# Altium integrated library Xilinx CoolRunner II.IntLib: 198 symbols (part 13 of 14)
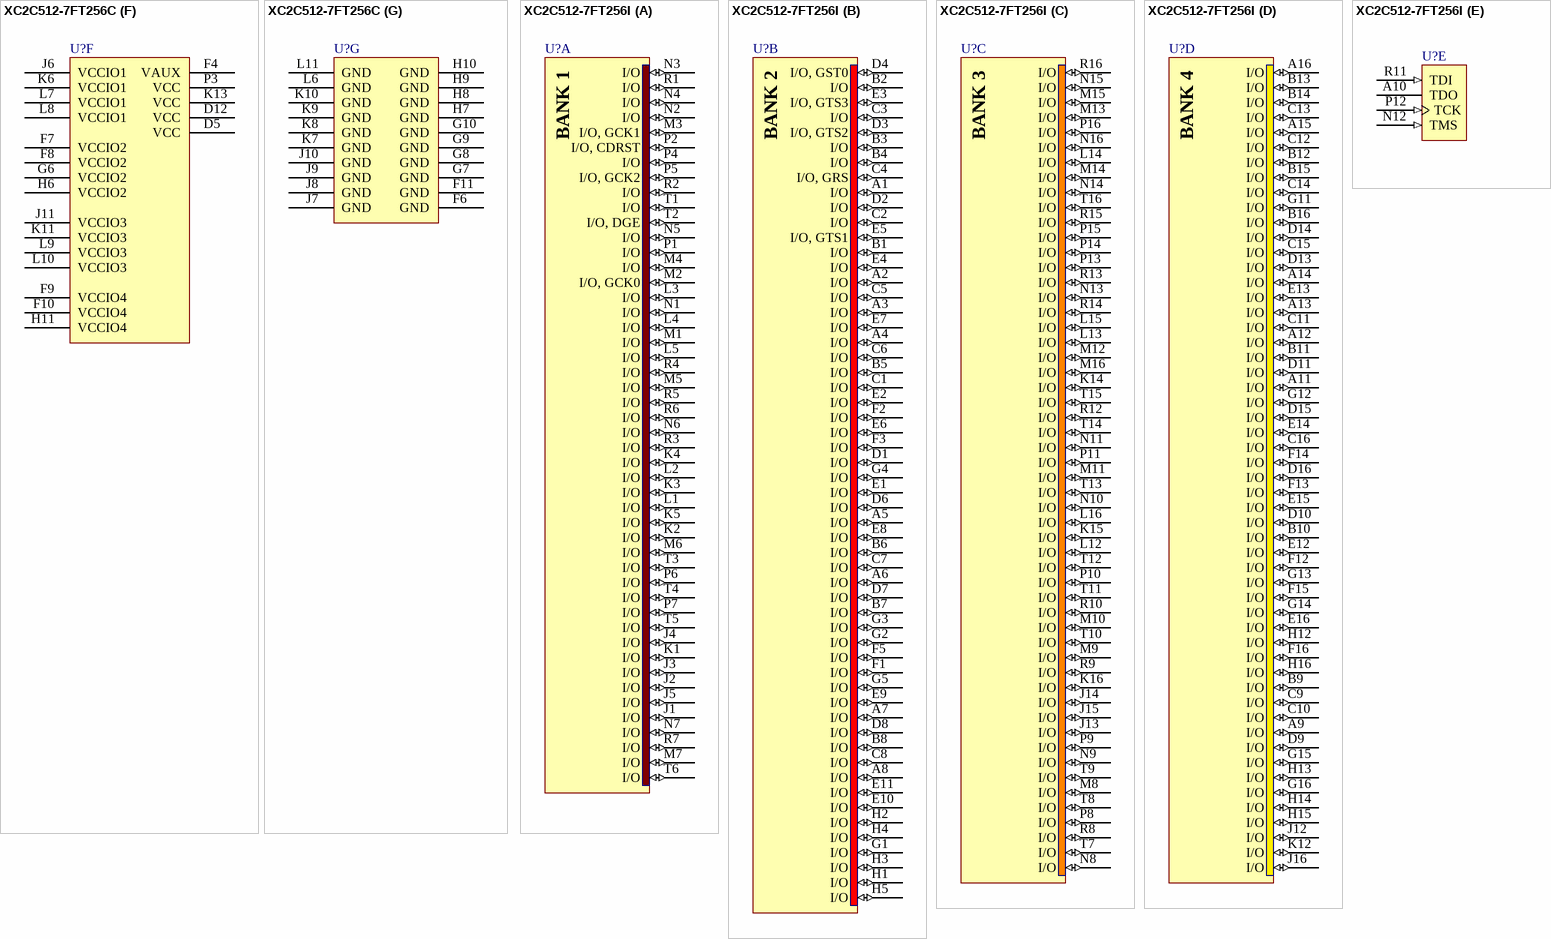
[diagram p114: symbols XC2C512-7FT256C to XC2C512-7FT256I]

## XC2C512-7FT256C
designator U?
CoolRunner-II 1.8V, 512 Macrocell CPLD, 212 User I/Os, 256-Ball FTBGA, Commercial Grade; Published: 23-Sep-2002; LatestRevisionDate: 30-Oct-2009; LatestRevisionNote: Updated to datasheet version 3.1 Sep-2008.; DatasheetVersion: ver3.2, Mar-2007; PackageVersion: ver1.3, Oct-2007; PackageReference: FT256; Publisher: Altium Limited; PackageDescription: 256-Ball Fine Pitch Thin Ball Grid Array 1.00 mm Pitch (FT256); Code_JEDEC: MS-034-AAF-1*; ComponentLink1Description: XC2C512 Datasheet; ComponentLink1URL: http://www.xilinx.com/support/documentation/data_sheets/ds096.pdf; ComponentLink2Description: FT256 Package Drawing; ComponentLink2URL: http://www.xilinx.com/support/documentation/package_specs/ft256.pdf; ComponentLink3Description: CoolRunner-II Documents; ComponentLink3URL: http://www.xilinx.com/support/documentation/coolrunner-ii.htm; ComponentLink4Description: Xilinx.com Home; ComponentLink4URL: http://www.xilinx.com
footprint FT256 (BGA, 256-Leads, Body 17x17mm, Pitch 1mm)
signal-integrity model XC2C512_FT256 (CoolRunner-II)
part A pins: J1 I/O (io), J2 I/O (io), J3 I/O (io), J4 I/O (io), J5 I/O (io), K1 I/O (io), K2 I/O (io), K3 I/O (io), K4 I/O (io), K5 I/O (io), L1 I/O (io), L2 I/O (io), L3 I/O (io), L4 I/O (io), L5 I/O (io), M1 I/O (io), M2 I/O, GCK0 (io), M3 I/O, GCK1 (io), M4 I/O (io), M5 I/O (io), M6 I/O (io), M7 I/O (io), N1 I/O (io), N2 I/O (io), N3 I/O (io), N4 I/O (io), N5 I/O (io), N6 I/O (io), N7 I/O (io), P1 I/O (io), P2 I/O, CDRST (io), P4 I/O (io), P5 I/O, GCK2 (io), P6 I/O (io), P7 I/O (io), R1 I/O (io), R2 I/O (io), R3 I/O (io), R4 I/O (io), R5 I/O (io), R6 I/O (io), R7 I/O (io), T1 I/O (io), T2 I/O, DGE (io), T3 I/O (io), T4 I/O (io), T5 I/O (io), T6 I/O (io)
part B pins: A1 I/O (io), A2 I/O (io), A3 I/O (io), A4 I/O (io), A5 I/O (io), A6 I/O (io), A7 I/O (io), A8 I/O (io), B1 I/O (io), B2 I/O (io), B3 I/O (io), B4 I/O (io), B5 I/O (io), B6 I/O (io), B7 I/O (io), B8 I/O (io), C1 I/O (io), C2 I/O (io), C3 I/O (io), C4 I/O, GRS (io), C5 I/O (io), C6 I/O (io), C7 I/O (io), C8 I/O (io), D1 I/O (io), D2 I/O (io), D3 I/O, GTS2 (io), D4 I/O, GST0 (io), D6 I/O (io), D7 I/O (io), D8 I/O (io), E1 I/O (io), E2 I/O (io), E3 I/O, GTS3 (io), E4 I/O (io), E5 I/O, GTS1 (io), E6 I/O (io), E7 I/O (io), E8 I/O (io), E9 I/O (io), E10 I/O (io), E11 I/O (io), F1 I/O (io), F2 I/O (io), F3 I/O (io), F5 I/O (io), G1 I/O (io), G2 I/O (io), G3 I/O (io), G4 I/O (io), G5 I/O (io), H1 I/O (io), H2 I/O (io), H3 I/O (io), H4 I/O (io), H5 I/O (io)
part C pins: J13 I/O (io), J14 I/O (io), J15 I/O (io), K14 I/O (io), K15 I/O (io), K16 I/O (io), L12 I/O (io), L13 I/O (io), L14 I/O (io), L15 I/O (io), L16 I/O (io), M8 I/O (io), M9 I/O (io), M10 I/O (io), M11 I/O (io), M12 I/O (io), M13 I/O (io), M14 I/O (io), M15 I/O (io), M16 I/O (io), N8 I/O (io), N9 I/O (io), N10 I/O (io), N11 I/O (io), N13 I/O (io), N14 I/O (io), N15 I/O (io), N16 I/O (io), P8 I/O (io), P9 I/O (io), P10 I/O (io), P11 I/O (io), P13 I/O (io), P14 I/O (io), P15 I/O (io), P16 I/O (io), R8 I/O (io), R9 I/O (io), R10 I/O (io), R12 I/O (io), R13 I/O (io), R14 I/O (io), R15 I/O (io), R16 I/O (io), T7 I/O (io), T8 I/O (io), T9 I/O (io), T10 I/O (io), T11 I/O (io), T12 I/O (io), T13 I/O (io), T14 I/O (io), T15 I/O (io), T16 I/O (io)
part D pins: A9 I/O (io), A11 I/O (io), A12 I/O (io), A13 I/O (io), A14 I/O (io), A15 I/O (io), A16 I/O (io), B9 I/O (io), B10 I/O (io), B11 I/O (io), B12 I/O (io), B13 I/O (io), B14 I/O (io), B15 I/O (io), B16 I/O (io), C9 I/O (io), C10 I/O (io), C11 I/O (io), C12 I/O (io), C13 I/O (io), C14 I/O (io), C15 I/O (io), C16 I/O (io), D9 I/O (io), D10 I/O (io), D11 I/O (io), D13 I/O (io), D14 I/O (io), D15 I/O (io), D16 I/O (io), E12 I/O (io), E13 I/O (io), E14 I/O (io), E15 I/O (io), E16 I/O (io), F12 I/O (io), F13 I/O (io), F14 I/O (io), F15 I/O (io), F16 I/O (io), G11 I/O (io), G12 I/O (io), G13 I/O (io), G14 I/O (io), G15 I/O (io), G16 I/O (io), H12 I/O (io), H13 I/O (io), H14 I/O (io), H15 I/O (io), H16 I/O (io), J12 I/O (io), J16 I/O (io), K12 I/O (io)
part E pins: A10 TDO, N12 TMS (in), P12 TCK (in), R11 TDI (in)
part F pins: D5 VCC (power), D12 VCC (power), F4 VAUX (power), F7 VCCIO2 (power), F8 VCCIO2 (power), F9 VCCIO4 (power), F10 VCCIO4 (power), G6 VCCIO2 (power), H6 VCCIO2 (power), H11 VCCIO4 (power), J6 VCCIO1 (power), J11 VCCIO3 (power), K6 VCCIO1 (power), K11 VCCIO3 (power), K13 VCC (power), L7 VCCIO1 (power), L8 VCCIO1 (power), L9 VCCIO3 (power), L10 VCCIO3 (power), P3 VCC (power)
part G pins: F6 GND (power), F11 GND (power), G7 GND (power), G8 GND (power), G9 GND (power), G10 GND (power), H7 GND (power), H8 GND (power), H9 GND (power), H10 GND (power), J7 GND (power), J8 GND (power), J9 GND (power), J10 GND (power), K7 GND (power), K8 GND (power), K9 GND (power), K10 GND (power), L6 GND (power), L11 GND (power)
part A text: BANK 1
part B text: BANK 2
part C text: BANK 3
part D text: BANK 4

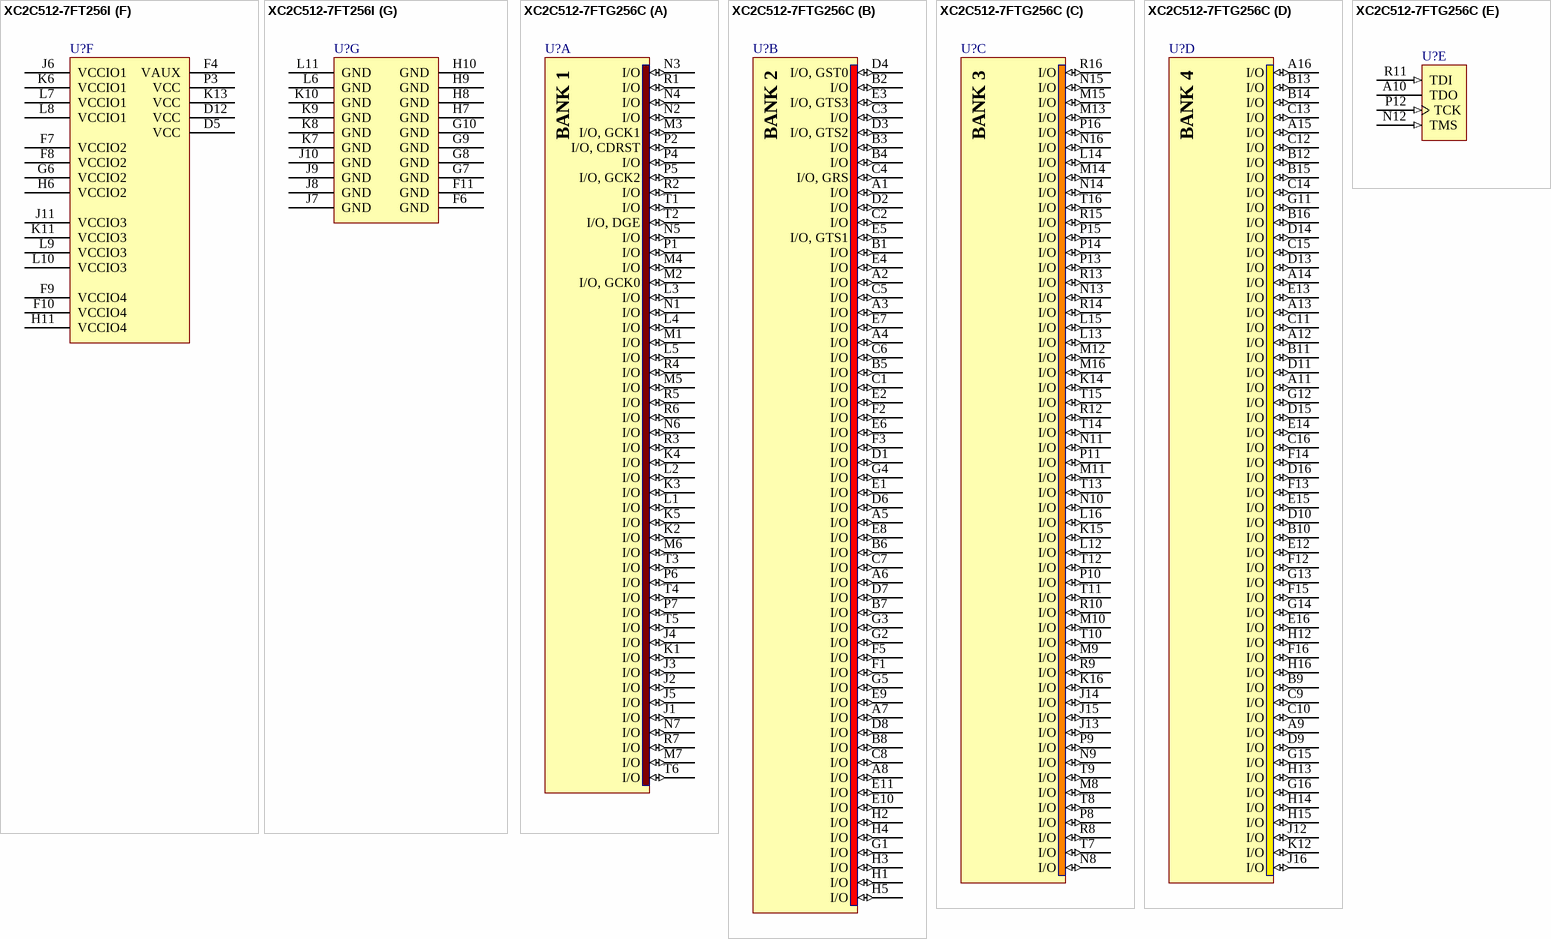
[diagram p86: symbols XC2C512-7FT256I to XC2C512-7FTG256C]

## XC2C512-7FT256I
designator U?
CoolRunner-II 1.8V, 512 Macrocell CPLD, 212 User I/Os, 256-Ball FTBGA, Industrial Grade; Published: 20-Jul-2007; LatestRevisionDate: 30-Oct-2009; LatestRevisionNote: Updated to datasheet version 3.1 Sep-2008.; DatasheetVersion: ver3.2, Mar-2007; PackageVersion: ver1.3, Oct-2007; PackageReference: FT256; Publisher: Altium Limited; PackageDescription: 256-Ball Fine Pitch Thin Ball Grid Array 1.00 mm Pitch (FT256); Code_JEDEC: MS-034-AAF-1*; ComponentLink1Description: XC2C512 Datasheet; ComponentLink1URL: http://www.xilinx.com/support/documentation/data_sheets/ds096.pdf; ComponentLink2Description: FT256 Package Drawing; ComponentLink2URL: http://www.xilinx.com/support/documentation/package_specs/ft256.pdf; ComponentLink3Description: CoolRunner-II Documents; ComponentLink3URL: http://www.xilinx.com/support/documentation/coolrunner-ii.htm; ComponentLink4Description: Xilinx.com Home; ComponentLink4URL: http://www.xilinx.com
footprint FT256 (BGA, 256-Leads, Body 17x17mm, Pitch 1mm)
signal-integrity model XC2C512_FT256 (CoolRunner-II)
part A pins: J1 I/O (io), J2 I/O (io), J3 I/O (io), J4 I/O (io), J5 I/O (io), K1 I/O (io), K2 I/O (io), K3 I/O (io), K4 I/O (io), K5 I/O (io), L1 I/O (io), L2 I/O (io), L3 I/O (io), L4 I/O (io), L5 I/O (io), M1 I/O (io), M2 I/O, GCK0 (io), M3 I/O, GCK1 (io), M4 I/O (io), M5 I/O (io), M6 I/O (io), M7 I/O (io), N1 I/O (io), N2 I/O (io), N3 I/O (io), N4 I/O (io), N5 I/O (io), N6 I/O (io), N7 I/O (io), P1 I/O (io), P2 I/O, CDRST (io), P4 I/O (io), P5 I/O, GCK2 (io), P6 I/O (io), P7 I/O (io), R1 I/O (io), R2 I/O (io), R3 I/O (io), R4 I/O (io), R5 I/O (io), R6 I/O (io), R7 I/O (io), T1 I/O (io), T2 I/O, DGE (io), T3 I/O (io), T4 I/O (io), T5 I/O (io), T6 I/O (io)
part B pins: A1 I/O (io), A2 I/O (io), A3 I/O (io), A4 I/O (io), A5 I/O (io), A6 I/O (io), A7 I/O (io), A8 I/O (io), B1 I/O (io), B2 I/O (io), B3 I/O (io), B4 I/O (io), B5 I/O (io), B6 I/O (io), B7 I/O (io), B8 I/O (io), C1 I/O (io), C2 I/O (io), C3 I/O (io), C4 I/O, GRS (io), C5 I/O (io), C6 I/O (io), C7 I/O (io), C8 I/O (io), D1 I/O (io), D2 I/O (io), D3 I/O, GTS2 (io), D4 I/O, GST0 (io), D6 I/O (io), D7 I/O (io), D8 I/O (io), E1 I/O (io), E2 I/O (io), E3 I/O, GTS3 (io), E4 I/O (io), E5 I/O, GTS1 (io), E6 I/O (io), E7 I/O (io), E8 I/O (io), E9 I/O (io), E10 I/O (io), E11 I/O (io), F1 I/O (io), F2 I/O (io), F3 I/O (io), F5 I/O (io), G1 I/O (io), G2 I/O (io), G3 I/O (io), G4 I/O (io), G5 I/O (io), H1 I/O (io), H2 I/O (io), H3 I/O (io), H4 I/O (io), H5 I/O (io)
part C pins: J13 I/O (io), J14 I/O (io), J15 I/O (io), K14 I/O (io), K15 I/O (io), K16 I/O (io), L12 I/O (io), L13 I/O (io), L14 I/O (io), L15 I/O (io), L16 I/O (io), M8 I/O (io), M9 I/O (io), M10 I/O (io), M11 I/O (io), M12 I/O (io), M13 I/O (io), M14 I/O (io), M15 I/O (io), M16 I/O (io), N8 I/O (io), N9 I/O (io), N10 I/O (io), N11 I/O (io), N13 I/O (io), N14 I/O (io), N15 I/O (io), N16 I/O (io), P8 I/O (io), P9 I/O (io), P10 I/O (io), P11 I/O (io), P13 I/O (io), P14 I/O (io), P15 I/O (io), P16 I/O (io), R8 I/O (io), R9 I/O (io), R10 I/O (io), R12 I/O (io), R13 I/O (io), R14 I/O (io), R15 I/O (io), R16 I/O (io), T7 I/O (io), T8 I/O (io), T9 I/O (io), T10 I/O (io), T11 I/O (io), T12 I/O (io), T13 I/O (io), T14 I/O (io), T15 I/O (io), T16 I/O (io)
part D pins: A9 I/O (io), A11 I/O (io), A12 I/O (io), A13 I/O (io), A14 I/O (io), A15 I/O (io), A16 I/O (io), B9 I/O (io), B10 I/O (io), B11 I/O (io), B12 I/O (io), B13 I/O (io), B14 I/O (io), B15 I/O (io), B16 I/O (io), C9 I/O (io), C10 I/O (io), C11 I/O (io), C12 I/O (io), C13 I/O (io), C14 I/O (io), C15 I/O (io), C16 I/O (io), D9 I/O (io), D10 I/O (io), D11 I/O (io), D13 I/O (io), D14 I/O (io), D15 I/O (io), D16 I/O (io), E12 I/O (io), E13 I/O (io), E14 I/O (io), E15 I/O (io), E16 I/O (io), F12 I/O (io), F13 I/O (io), F14 I/O (io), F15 I/O (io), F16 I/O (io), G11 I/O (io), G12 I/O (io), G13 I/O (io), G14 I/O (io), G15 I/O (io), G16 I/O (io), H12 I/O (io), H13 I/O (io), H14 I/O (io), H15 I/O (io), H16 I/O (io), J12 I/O (io), J16 I/O (io), K12 I/O (io)
part E pins: A10 TDO, N12 TMS (in), P12 TCK (in), R11 TDI (in)
part F pins: D5 VCC (power), D12 VCC (power), F4 VAUX (power), F7 VCCIO2 (power), F8 VCCIO2 (power), F9 VCCIO4 (power), F10 VCCIO4 (power), G6 VCCIO2 (power), H6 VCCIO2 (power), H11 VCCIO4 (power), J6 VCCIO1 (power), J11 VCCIO3 (power), K6 VCCIO1 (power), K11 VCCIO3 (power), K13 VCC (power), L7 VCCIO1 (power), L8 VCCIO1 (power), L9 VCCIO3 (power), L10 VCCIO3 (power), P3 VCC (power)
part G pins: F6 GND (power), F11 GND (power), G7 GND (power), G8 GND (power), G9 GND (power), G10 GND (power), H7 GND (power), H8 GND (power), H9 GND (power), H10 GND (power), J7 GND (power), J8 GND (power), J9 GND (power), J10 GND (power), K7 GND (power), K8 GND (power), K9 GND (power), K10 GND (power), L6 GND (power), L11 GND (power)
part A text: BANK 1
part B text: BANK 2
part C text: BANK 3
part D text: BANK 4

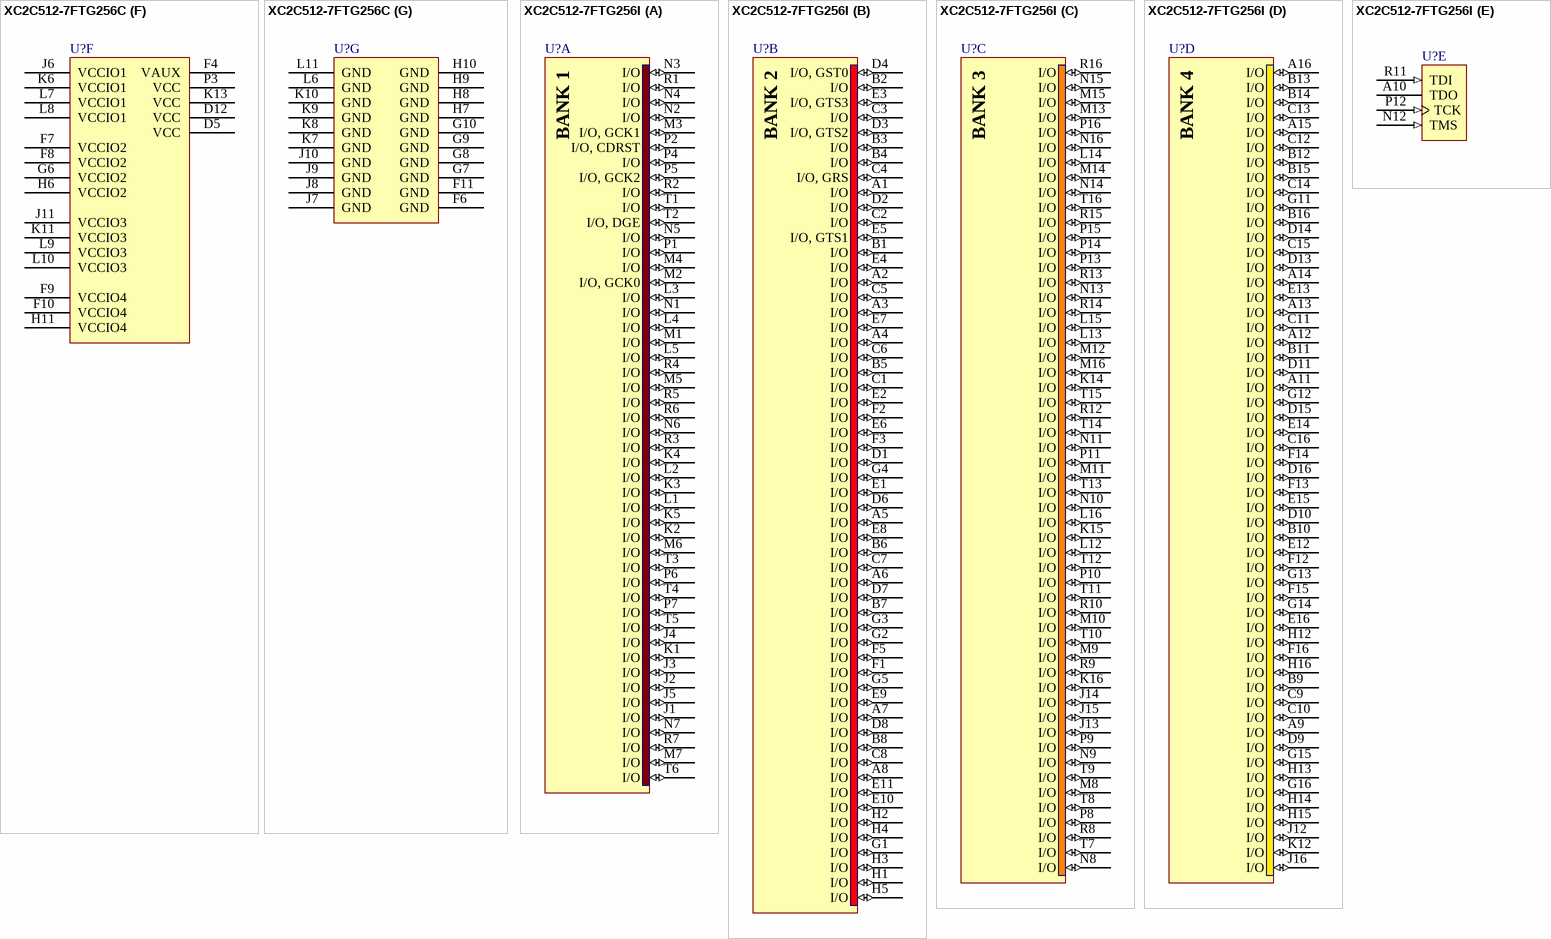
[diagram p87: symbols XC2C512-7FTG256C to XC2C512-7FTG256I]

## XC2C512-7FTG256C
designator U?
CoolRunner-II 1.8V, 512 Macrocell CPLD, 212 User I/Os, 256-Ball FTBGA, Commercial Grade, Pb-Free; Published: 4-Mar-2005; LatestRevisionDate: 30-Oct-2009; LatestRevisionNote: Updated to datasheet version 3.1 Sep-2008.; DatasheetVersion: ver3.2, Mar-2007; PackageVersion: ver1.3, Oct-2007; PackageReference: FTG256; Publisher: Altium Limited; PackageDescription: 256-Ball Fine Pitch Thin Ball Grid Array 1.00 mm Pitch (FTG256) - Pb-Free; Supplier 1: Digi-Key; Supplier Part Number 1: 122-1417-ND; Code_JEDEC: MS-034-AAF-1*; ComponentLink1Description: XC2C512 Datasheet; ComponentLink1URL: http://www.xilinx.com/support/documentation/data_sheets/ds096.pdf; ComponentLink2Description: FTG256 Package Drawing; ComponentLink2URL: http://www.xilinx.com/support/documentation/package_specs/ft256.pdf; ComponentLink3Description: CoolRunner-II Documents; ComponentLink3URL: http://www.xilinx.com/support/documentation/coolrunner-ii.htm; ComponentLink4Description: Xilinx.com Home; ComponentLink4URL: http://www.xilinx.com
footprint FTG256 (BGA, 256-Leads, Body 17x17mm, Pitch 1mm)
signal-integrity model XC2C512_FT256 (CoolRunner-II)
part A pins: J1 I/O (io), J2 I/O (io), J3 I/O (io), J4 I/O (io), J5 I/O (io), K1 I/O (io), K2 I/O (io), K3 I/O (io), K4 I/O (io), K5 I/O (io), L1 I/O (io), L2 I/O (io), L3 I/O (io), L4 I/O (io), L5 I/O (io), M1 I/O (io), M2 I/O, GCK0 (io), M3 I/O, GCK1 (io), M4 I/O (io), M5 I/O (io), M6 I/O (io), M7 I/O (io), N1 I/O (io), N2 I/O (io), N3 I/O (io), N4 I/O (io), N5 I/O (io), N6 I/O (io), N7 I/O (io), P1 I/O (io), P2 I/O, CDRST (io), P4 I/O (io), P5 I/O, GCK2 (io), P6 I/O (io), P7 I/O (io), R1 I/O (io), R2 I/O (io), R3 I/O (io), R4 I/O (io), R5 I/O (io), R6 I/O (io), R7 I/O (io), T1 I/O (io), T2 I/O, DGE (io), T3 I/O (io), T4 I/O (io), T5 I/O (io), T6 I/O (io)
part B pins: A1 I/O (io), A2 I/O (io), A3 I/O (io), A4 I/O (io), A5 I/O (io), A6 I/O (io), A7 I/O (io), A8 I/O (io), B1 I/O (io), B2 I/O (io), B3 I/O (io), B4 I/O (io), B5 I/O (io), B6 I/O (io), B7 I/O (io), B8 I/O (io), C1 I/O (io), C2 I/O (io), C3 I/O (io), C4 I/O, GRS (io), C5 I/O (io), C6 I/O (io), C7 I/O (io), C8 I/O (io), D1 I/O (io), D2 I/O (io), D3 I/O, GTS2 (io), D4 I/O, GST0 (io), D6 I/O (io), D7 I/O (io), D8 I/O (io), E1 I/O (io), E2 I/O (io), E3 I/O, GTS3 (io), E4 I/O (io), E5 I/O, GTS1 (io), E6 I/O (io), E7 I/O (io), E8 I/O (io), E9 I/O (io), E10 I/O (io), E11 I/O (io), F1 I/O (io), F2 I/O (io), F3 I/O (io), F5 I/O (io), G1 I/O (io), G2 I/O (io), G3 I/O (io), G4 I/O (io), G5 I/O (io), H1 I/O (io), H2 I/O (io), H3 I/O (io), H4 I/O (io), H5 I/O (io)
part C pins: J13 I/O (io), J14 I/O (io), J15 I/O (io), K14 I/O (io), K15 I/O (io), K16 I/O (io), L12 I/O (io), L13 I/O (io), L14 I/O (io), L15 I/O (io), L16 I/O (io), M8 I/O (io), M9 I/O (io), M10 I/O (io), M11 I/O (io), M12 I/O (io), M13 I/O (io), M14 I/O (io), M15 I/O (io), M16 I/O (io), N8 I/O (io), N9 I/O (io), N10 I/O (io), N11 I/O (io), N13 I/O (io), N14 I/O (io), N15 I/O (io), N16 I/O (io), P8 I/O (io), P9 I/O (io), P10 I/O (io), P11 I/O (io), P13 I/O (io), P14 I/O (io), P15 I/O (io), P16 I/O (io), R8 I/O (io), R9 I/O (io), R10 I/O (io), R12 I/O (io), R13 I/O (io), R14 I/O (io), R15 I/O (io), R16 I/O (io), T7 I/O (io), T8 I/O (io), T9 I/O (io), T10 I/O (io), T11 I/O (io), T12 I/O (io), T13 I/O (io), T14 I/O (io), T15 I/O (io), T16 I/O (io)
part D pins: A9 I/O (io), A11 I/O (io), A12 I/O (io), A13 I/O (io), A14 I/O (io), A15 I/O (io), A16 I/O (io), B9 I/O (io), B10 I/O (io), B11 I/O (io), B12 I/O (io), B13 I/O (io), B14 I/O (io), B15 I/O (io), B16 I/O (io), C9 I/O (io), C10 I/O (io), C11 I/O (io), C12 I/O (io), C13 I/O (io), C14 I/O (io), C15 I/O (io), C16 I/O (io), D9 I/O (io), D10 I/O (io), D11 I/O (io), D13 I/O (io), D14 I/O (io), D15 I/O (io), D16 I/O (io), E12 I/O (io), E13 I/O (io), E14 I/O (io), E15 I/O (io), E16 I/O (io), F12 I/O (io), F13 I/O (io), F14 I/O (io), F15 I/O (io), F16 I/O (io), G11 I/O (io), G12 I/O (io), G13 I/O (io), G14 I/O (io), G15 I/O (io), G16 I/O (io), H12 I/O (io), H13 I/O (io), H14 I/O (io), H15 I/O (io), H16 I/O (io), J12 I/O (io), J16 I/O (io), K12 I/O (io)
part E pins: A10 TDO, N12 TMS (in), P12 TCK (in), R11 TDI (in)
part F pins: D5 VCC (power), D12 VCC (power), F4 VAUX (power), F7 VCCIO2 (power), F8 VCCIO2 (power), F9 VCCIO4 (power), F10 VCCIO4 (power), G6 VCCIO2 (power), H6 VCCIO2 (power), H11 VCCIO4 (power), J6 VCCIO1 (power), J11 VCCIO3 (power), K6 VCCIO1 (power), K11 VCCIO3 (power), K13 VCC (power), L7 VCCIO1 (power), L8 VCCIO1 (power), L9 VCCIO3 (power), L10 VCCIO3 (power), P3 VCC (power)
part G pins: F6 GND (power), F11 GND (power), G7 GND (power), G8 GND (power), G9 GND (power), G10 GND (power), H7 GND (power), H8 GND (power), H9 GND (power), H10 GND (power), J7 GND (power), J8 GND (power), J9 GND (power), J10 GND (power), K7 GND (power), K8 GND (power), K9 GND (power), K10 GND (power), L6 GND (power), L11 GND (power)
part A text: BANK 1
part B text: BANK 2
part C text: BANK 3
part D text: BANK 4

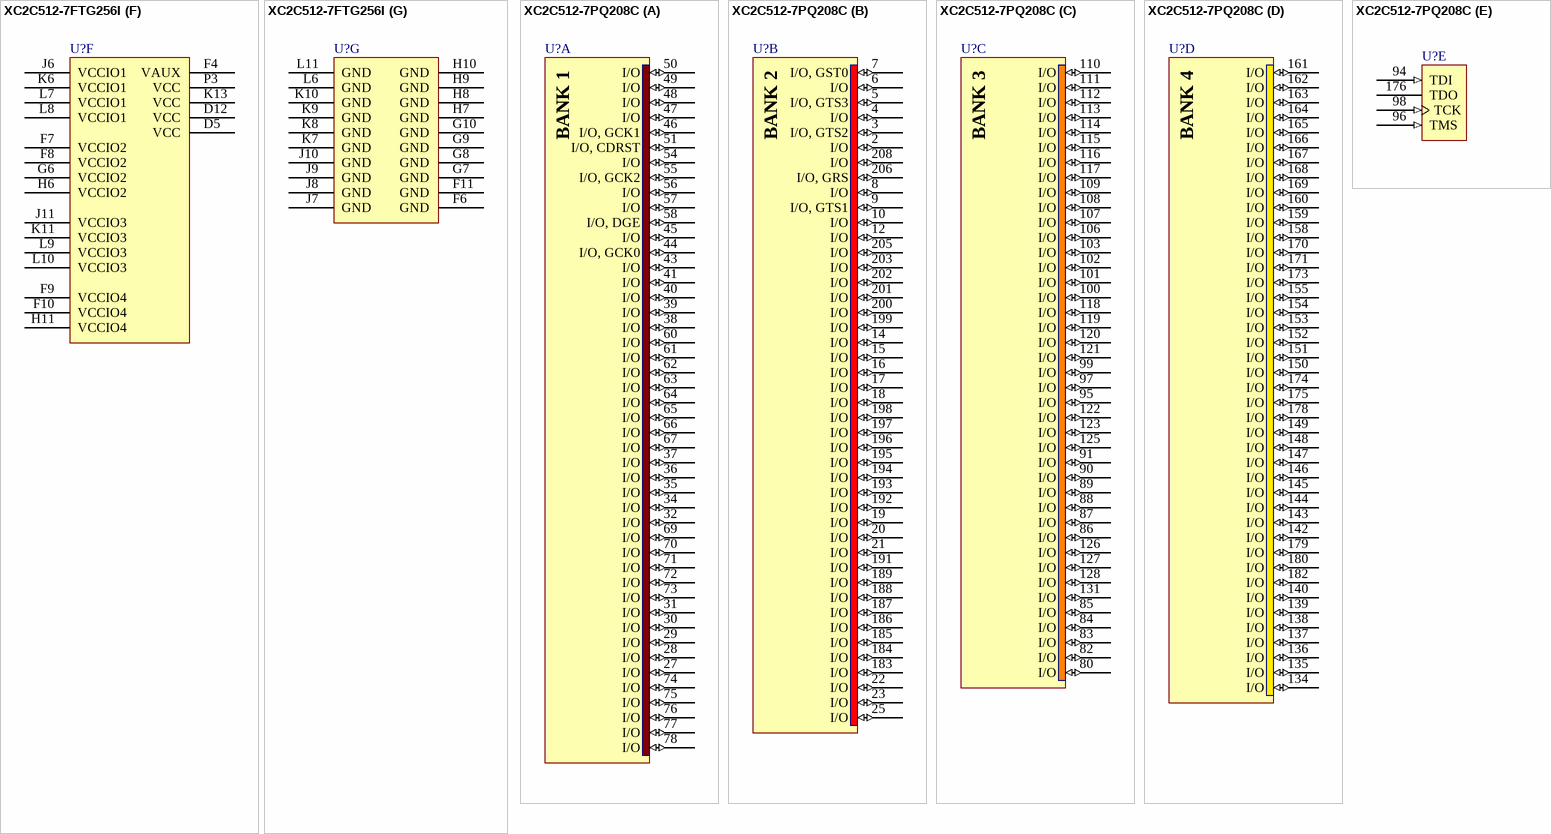
[diagram p88: symbols XC2C512-7FTG256I to XC2C512-7PQ208C]

## XC2C512-7FTG256I
designator U?
CoolRunner-II 1.8V, 512 Macrocell CPLD, 212 User I/Os, 256-Ball FTBGA, Industrial Grade, Pb-Free; Published: 20-Jul-2007; LatestRevisionDate: 30-Oct-2009; LatestRevisionNote: Updated to datasheet version 3.1 Sep-2008.; DatasheetVersion: ver3.2, Mar-2007; PackageVersion: ver1.3, Oct-2007; PackageReference: FTG256; Publisher: Altium Limited; PackageDescription: 256-Ball Fine Pitch Thin Ball Grid Array 1.00 mm Pitch (FTG256) - Pb-Free; Supplier 1: Digi-Key; Supplier Part Number 1: XC2C512-7FTG256I-ND; Code_JEDEC: MS-034-AAF-1*; ComponentLink1Description: XC2C512 Datasheet; ComponentLink1URL: http://www.xilinx.com/support/documentation/data_sheets/ds096.pdf; ComponentLink2Description: FTG256 Package Drawing; ComponentLink2URL: http://www.xilinx.com/support/documentation/package_specs/ft256.pdf; ComponentLink3Description: CoolRunner-II Documents; ComponentLink3URL: http://www.xilinx.com/support/documentation/coolrunner-ii.htm; ComponentLink4Description: Xilinx.com Home; ComponentLink4URL: http://www.xilinx.com
footprint FTG256 (BGA, 256-Leads, Body 17x17mm, Pitch 1mm)
signal-integrity model XC2C512_FT256 (CoolRunner-II)
part A pins: J1 I/O (io), J2 I/O (io), J3 I/O (io), J4 I/O (io), J5 I/O (io), K1 I/O (io), K2 I/O (io), K3 I/O (io), K4 I/O (io), K5 I/O (io), L1 I/O (io), L2 I/O (io), L3 I/O (io), L4 I/O (io), L5 I/O (io), M1 I/O (io), M2 I/O, GCK0 (io), M3 I/O, GCK1 (io), M4 I/O (io), M5 I/O (io), M6 I/O (io), M7 I/O (io), N1 I/O (io), N2 I/O (io), N3 I/O (io), N4 I/O (io), N5 I/O (io), N6 I/O (io), N7 I/O (io), P1 I/O (io), P2 I/O, CDRST (io), P4 I/O (io), P5 I/O, GCK2 (io), P6 I/O (io), P7 I/O (io), R1 I/O (io), R2 I/O (io), R3 I/O (io), R4 I/O (io), R5 I/O (io), R6 I/O (io), R7 I/O (io), T1 I/O (io), T2 I/O, DGE (io), T3 I/O (io), T4 I/O (io), T5 I/O (io), T6 I/O (io)
part B pins: A1 I/O (io), A2 I/O (io), A3 I/O (io), A4 I/O (io), A5 I/O (io), A6 I/O (io), A7 I/O (io), A8 I/O (io), B1 I/O (io), B2 I/O (io), B3 I/O (io), B4 I/O (io), B5 I/O (io), B6 I/O (io), B7 I/O (io), B8 I/O (io), C1 I/O (io), C2 I/O (io), C3 I/O (io), C4 I/O, GRS (io), C5 I/O (io), C6 I/O (io), C7 I/O (io), C8 I/O (io), D1 I/O (io), D2 I/O (io), D3 I/O, GTS2 (io), D4 I/O, GST0 (io), D6 I/O (io), D7 I/O (io), D8 I/O (io), E1 I/O (io), E2 I/O (io), E3 I/O, GTS3 (io), E4 I/O (io), E5 I/O, GTS1 (io), E6 I/O (io), E7 I/O (io), E8 I/O (io), E9 I/O (io), E10 I/O (io), E11 I/O (io), F1 I/O (io), F2 I/O (io), F3 I/O (io), F5 I/O (io), G1 I/O (io), G2 I/O (io), G3 I/O (io), G4 I/O (io), G5 I/O (io), H1 I/O (io), H2 I/O (io), H3 I/O (io), H4 I/O (io), H5 I/O (io)
part C pins: J13 I/O (io), J14 I/O (io), J15 I/O (io), K14 I/O (io), K15 I/O (io), K16 I/O (io), L12 I/O (io), L13 I/O (io), L14 I/O (io), L15 I/O (io), L16 I/O (io), M8 I/O (io), M9 I/O (io), M10 I/O (io), M11 I/O (io), M12 I/O (io), M13 I/O (io), M14 I/O (io), M15 I/O (io), M16 I/O (io), N8 I/O (io), N9 I/O (io), N10 I/O (io), N11 I/O (io), N13 I/O (io), N14 I/O (io), N15 I/O (io), N16 I/O (io), P8 I/O (io), P9 I/O (io), P10 I/O (io), P11 I/O (io), P13 I/O (io), P14 I/O (io), P15 I/O (io), P16 I/O (io), R8 I/O (io), R9 I/O (io), R10 I/O (io), R12 I/O (io), R13 I/O (io), R14 I/O (io), R15 I/O (io), R16 I/O (io), T7 I/O (io), T8 I/O (io), T9 I/O (io), T10 I/O (io), T11 I/O (io), T12 I/O (io), T13 I/O (io), T14 I/O (io), T15 I/O (io), T16 I/O (io)
part D pins: A9 I/O (io), A11 I/O (io), A12 I/O (io), A13 I/O (io), A14 I/O (io), A15 I/O (io), A16 I/O (io), B9 I/O (io), B10 I/O (io), B11 I/O (io), B12 I/O (io), B13 I/O (io), B14 I/O (io), B15 I/O (io), B16 I/O (io), C9 I/O (io), C10 I/O (io), C11 I/O (io), C12 I/O (io), C13 I/O (io), C14 I/O (io), C15 I/O (io), C16 I/O (io), D9 I/O (io), D10 I/O (io), D11 I/O (io), D13 I/O (io), D14 I/O (io), D15 I/O (io), D16 I/O (io), E12 I/O (io), E13 I/O (io), E14 I/O (io), E15 I/O (io), E16 I/O (io), F12 I/O (io), F13 I/O (io), F14 I/O (io), F15 I/O (io), F16 I/O (io), G11 I/O (io), G12 I/O (io), G13 I/O (io), G14 I/O (io), G15 I/O (io), G16 I/O (io), H12 I/O (io), H13 I/O (io), H14 I/O (io), H15 I/O (io), H16 I/O (io), J12 I/O (io), J16 I/O (io), K12 I/O (io)
part E pins: A10 TDO, N12 TMS (in), P12 TCK (in), R11 TDI (in)
part F pins: D5 VCC (power), D12 VCC (power), F4 VAUX (power), F7 VCCIO2 (power), F8 VCCIO2 (power), F9 VCCIO4 (power), F10 VCCIO4 (power), G6 VCCIO2 (power), H6 VCCIO2 (power), H11 VCCIO4 (power), J6 VCCIO1 (power), J11 VCCIO3 (power), K6 VCCIO1 (power), K11 VCCIO3 (power), K13 VCC (power), L7 VCCIO1 (power), L8 VCCIO1 (power), L9 VCCIO3 (power), L10 VCCIO3 (power), P3 VCC (power)
part G pins: F6 GND (power), F11 GND (power), G7 GND (power), G8 GND (power), G9 GND (power), G10 GND (power), H7 GND (power), H8 GND (power), H9 GND (power), H10 GND (power), J7 GND (power), J8 GND (power), J9 GND (power), J10 GND (power), K7 GND (power), K8 GND (power), K9 GND (power), K10 GND (power), L6 GND (power), L11 GND (power)
part A text: BANK 1
part B text: BANK 2
part C text: BANK 3
part D text: BANK 4

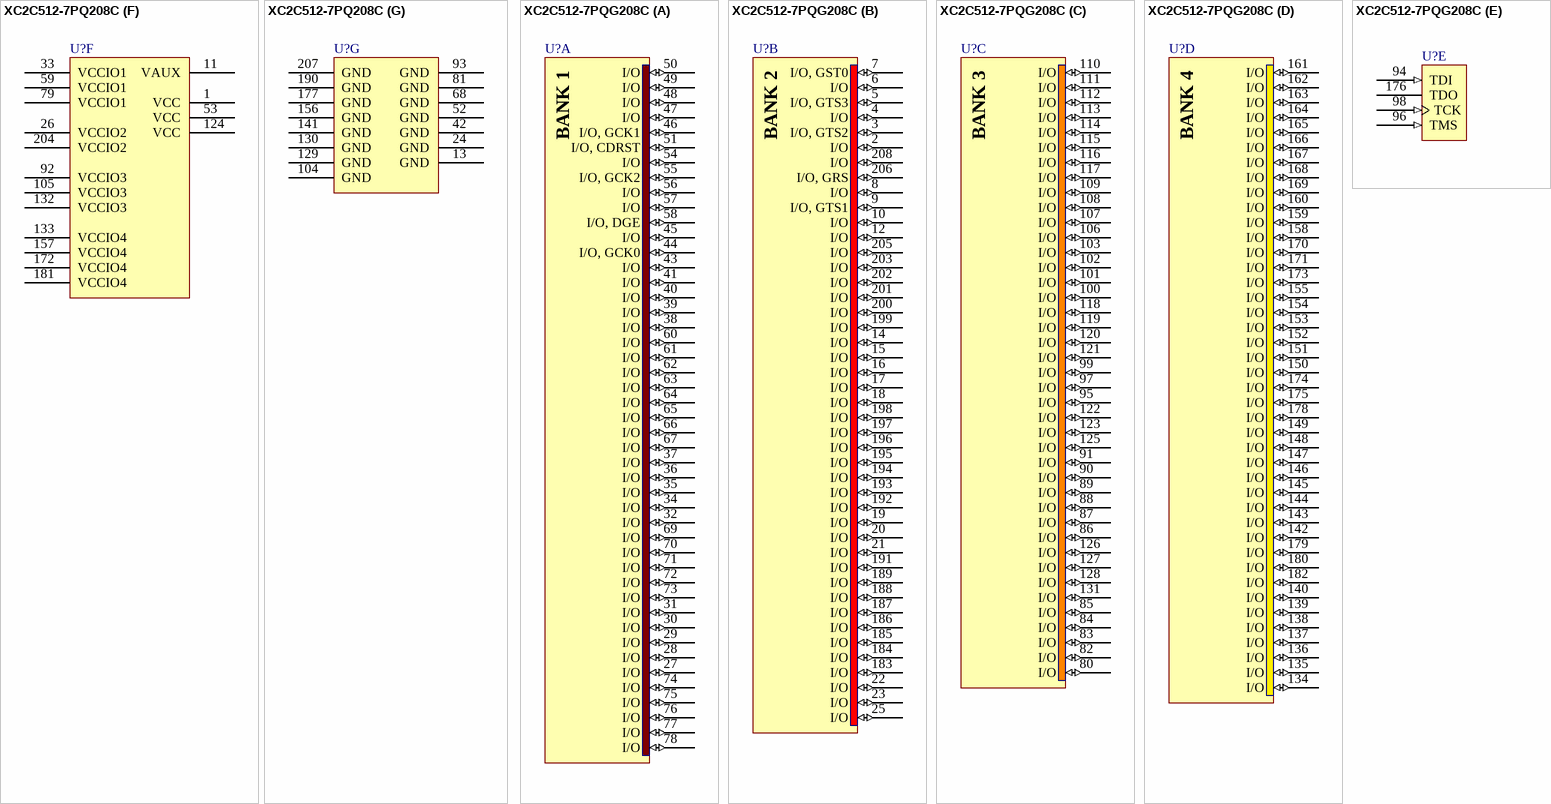
[diagram p89: symbols XC2C512-7PQ208C to XC2C512-7PQG208C]

## XC2C512-7PQ208C
designator U?
CoolRunner-II 1.8V, 512 Macrocell CPLD, 173 User I/Os, 208-Pin PQFP, Commercial Grade; Published: 23-Sep-2002; LatestRevisionDate: 30-Oct-2009; LatestRevisionNote: Updated to datasheet version 3.1 Sep-2008.; DatasheetVersion: ver3.2, Mar-2007; PackageVersion: ver1.2, Jun-2004; PackageReference: PQ208; Publisher: Altium Limited; PackageDescription: 208-Pin Plastic Quad Flat Pack (PQ208); Code_JEDEC: MS-029-FA-1; ComponentLink1Description: XC2C512 Datasheet; ComponentLink1URL: http://www.xilinx.com/support/documentation/data_sheets/ds096.pdf; ComponentLink2Description: PQ208 Package Drawing; ComponentLink2URL: http://www.xilinx.com/support/documentation/package_specs/pq208.pdf; ComponentLink3Description: CoolRunner-II Documents; ComponentLink3URL: http://www.xilinx.com/support/documentation/coolrunner-ii.htm; ComponentLink4Description: Xilinx.com Home; ComponentLink4URL: http://www.xilinx.com
footprint PQ208_N (Shrink QFP, 208-Leads, Body 28x28mm, Pitch 0.5mm, IPC Medium Density)
footprint PQ208_L (Shrink QFP, 208-Leads, Body 28x28mm, Pitch 0.5mm, IPC High Density)
footprint PQ208_M (Shrink QFP, 208-Leads, Body 28x28mm, Pitch 0.5mm, IPC Low Density)
signal-integrity model XC2C512_PQ208 (CoolRunner-II)
part A pins: 27 I/O (io), 28 I/O (io), 29 I/O (io), 30 I/O (io), 31 I/O (io), 32 I/O (io), 34 I/O (io), 35 I/O (io), 36 I/O (io), 37 I/O (io), 38 I/O (io), 39 I/O (io), 40 I/O (io), 41 I/O (io), 43 I/O (io), 44 I/O, GCK0 (io), 45 I/O (io), 46 I/O, GCK1 (io), 47 I/O (io), 48 I/O (io), 49 I/O (io), 50 I/O (io), 51 I/O, CDRST (io), 54 I/O (io), 55 I/O, GCK2 (io), 56 I/O (io), 57 I/O (io), 58 I/O, DGE (io), 60 I/O (io), 61 I/O (io), 62 I/O (io), 63 I/O (io), 64 I/O (io), 65 I/O (io), 66 I/O (io), 67 I/O (io), 69 I/O (io), 70 I/O (io), 71 I/O (io), 72 I/O (io), 73 I/O (io), 74 I/O (io), 75 I/O (io), 76 I/O (io), 77 I/O (io), 78 I/O (io)
part B pins: 2 I/O (io), 3 I/O, GTS2 (io), 4 I/O (io), 5 I/O, GTS3 (io), 6 I/O (io), 7 I/O, GST0 (io), 8 I/O (io), 9 I/O, GTS1 (io), 10 I/O (io), 12 I/O (io), 14 I/O (io), 15 I/O (io), 16 I/O (io), 17 I/O (io), 18 I/O (io), 19 I/O (io), 20 I/O (io), 21 I/O (io), 22 I/O (io), 23 I/O (io), 25 I/O (io), 183 I/O (io), 184 I/O (io), 185 I/O (io), 186 I/O (io), 187 I/O (io), 188 I/O (io), 189 I/O (io), 191 I/O (io), 192 I/O (io), 193 I/O (io), 194 I/O (io), 195 I/O (io), 196 I/O (io), 197 I/O (io), 198 I/O (io), 199 I/O (io), 200 I/O (io), 201 I/O (io), 202 I/O (io), 203 I/O (io), 205 I/O (io), 206 I/O, GRS (io), 208 I/O (io)
part C pins: 80 I/O (io), 82 I/O (io), 83 I/O (io), 84 I/O (io), 85 I/O (io), 86 I/O (io), 87 I/O (io), 88 I/O (io), 89 I/O (io), 90 I/O (io), 91 I/O (io), 95 I/O (io), 97 I/O (io), 99 I/O (io), 100 I/O (io), 101 I/O (io), 102 I/O (io), 103 I/O (io), 106 I/O (io), 107 I/O (io), 108 I/O (io), 109 I/O (io), 110 I/O (io), 111 I/O (io), 112 I/O (io), 113 I/O (io), 114 I/O (io), 115 I/O (io), 116 I/O (io), 117 I/O (io), 118 I/O (io), 119 I/O (io), 120 I/O (io), 121 I/O (io), 122 I/O (io), 123 I/O (io), 125 I/O (io), 126 I/O (io), 127 I/O (io), 128 I/O (io), 131 I/O (io)
part D pins: 134 I/O (io), 135 I/O (io), 136 I/O (io), 137 I/O (io), 138 I/O (io), 139 I/O (io), 140 I/O (io), 142 I/O (io), 143 I/O (io), 144 I/O (io), 145 I/O (io), 146 I/O (io), 147 I/O (io), 148 I/O (io), 149 I/O (io), 150 I/O (io), 151 I/O (io), 152 I/O (io), 153 I/O (io), 154 I/O (io), 155 I/O (io), 158 I/O (io), 159 I/O (io), 160 I/O (io), 161 I/O (io), 162 I/O (io), 163 I/O (io), 164 I/O (io), 165 I/O (io), 166 I/O (io), 167 I/O (io), 168 I/O (io), 169 I/O (io), 170 I/O (io), 171 I/O (io), 173 I/O (io), 174 I/O (io), 175 I/O (io), 178 I/O (io), 179 I/O (io), 180 I/O (io), 182 I/O (io)
part E pins: 94 TDI (in), 96 TMS (in), 98 TCK (in), 176 TDO
part F pins: 1 VCC (power), 11 VAUX (power), 26 VCCIO2 (power), 33 VCCIO1 (power), 53 VCC (power), 59 VCCIO1 (power), 79 VCCIO1 (power), 92 VCCIO3 (power), 105 VCCIO3 (power), 124 VCC (power), 132 VCCIO3 (power), 133 VCCIO4 (power), 157 VCCIO4 (power), 172 VCCIO4 (power), 181 VCCIO4 (power), 204 VCCIO2 (power)
part G pins: 13 GND (power), 24 GND (power), 42 GND (power), 52 GND (power), 68 GND (power), 81 GND (power), 93 GND (power), 104 GND (power), 129 GND (power), 130 GND (power), 141 GND (power), 156 GND (power), 177 GND (power), 190 GND (power), 207 GND (power)
part A text: BANK 1
part B text: BANK 2
part C text: BANK 3
part D text: BANK 4

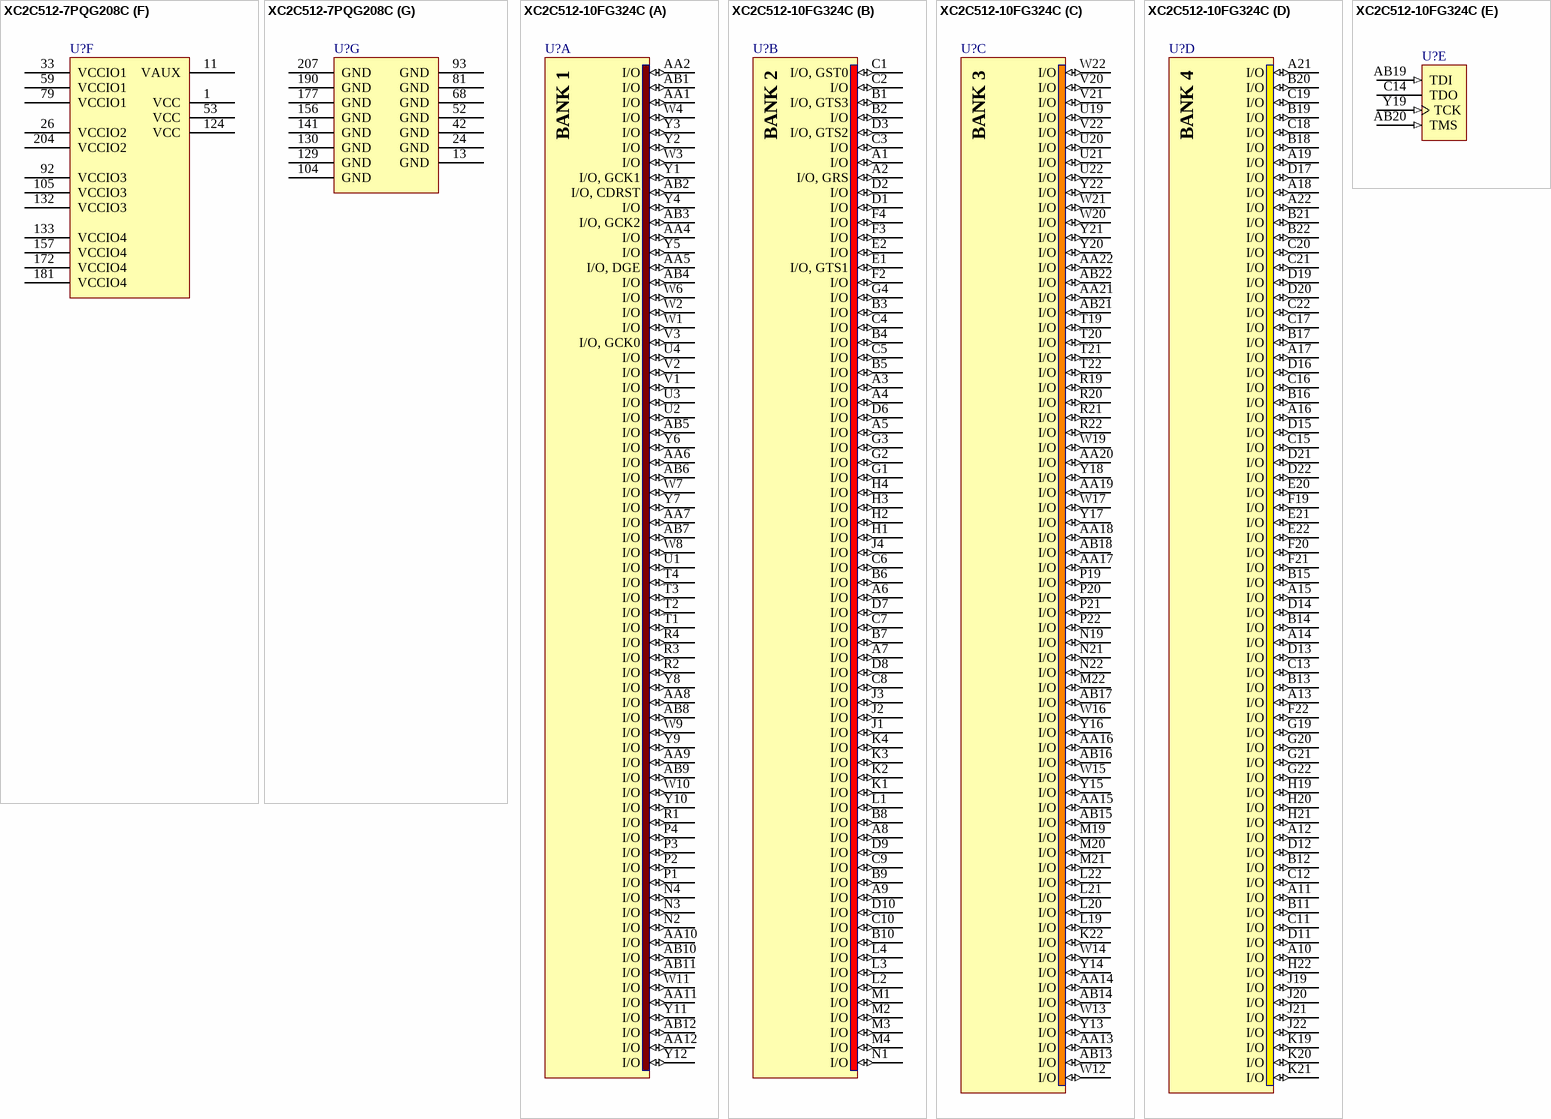
[diagram p90: symbols XC2C512-7PQG208C to XC2C512-10FG324C]

## XC2C512-7PQG208C
designator U?
CoolRunner-II 1.8V, 512 Macrocell CPLD, 173 User I/Os, 208-Pin PQFP, Commercial Grade, Pb-Free; Published: 4-Mar-2005; LatestRevisionDate: 30-Oct-2009; LatestRevisionNote: Updated to datasheet version 3.1 Sep-2008.; DatasheetVersion: ver3.2, Mar-2007; PackageVersion: ver1.2, Jun-2004; PackageReference: PQG208; Publisher: Altium Limited; PackageDescription: 208-Pin Plastic Quad Flat Pack (PQG208) - Pb-Free; Supplier 1: Digi-Key; Supplier Part Number 1: XC2C512-7PQG208C-ND; Code_JEDEC: MS-029-FA-1; ComponentLink1Description: XC2C512 Datasheet; ComponentLink1URL: http://www.xilinx.com/support/documentation/data_sheets/ds096.pdf; ComponentLink2Description: PQG208 Package Drawing; ComponentLink2URL: http://www.xilinx.com/support/documentation/package_specs/pq208.pdf; ComponentLink3Description: CoolRunner-II Documents; ComponentLink3URL: http://www.xilinx.com/support/documentation/coolrunner-ii.htm; ComponentLink4Description: Xilinx.com Home; ComponentLink4URL: http://www.xilinx.com
footprint PQG208_N (Shrink QFP, 208-Leads, Body 28x28mm, Pitch 0.5mm, IPC Medium Density)
footprint PQG208_L (Shrink QFP, 208-Leads, Body 28x28mm, Pitch 0.5mm, IPC High Density)
footprint PQG208_M (Shrink QFP, 208-Leads, Body 28x28mm, Pitch 0.5mm, IPC Low Density)
signal-integrity model XC2C512_PQ208 (CoolRunner-II)
part A pins: 27 I/O (io), 28 I/O (io), 29 I/O (io), 30 I/O (io), 31 I/O (io), 32 I/O (io), 34 I/O (io), 35 I/O (io), 36 I/O (io), 37 I/O (io), 38 I/O (io), 39 I/O (io), 40 I/O (io), 41 I/O (io), 43 I/O (io), 44 I/O, GCK0 (io), 45 I/O (io), 46 I/O, GCK1 (io), 47 I/O (io), 48 I/O (io), 49 I/O (io), 50 I/O (io), 51 I/O, CDRST (io), 54 I/O (io), 55 I/O, GCK2 (io), 56 I/O (io), 57 I/O (io), 58 I/O, DGE (io), 60 I/O (io), 61 I/O (io), 62 I/O (io), 63 I/O (io), 64 I/O (io), 65 I/O (io), 66 I/O (io), 67 I/O (io), 69 I/O (io), 70 I/O (io), 71 I/O (io), 72 I/O (io), 73 I/O (io), 74 I/O (io), 75 I/O (io), 76 I/O (io), 77 I/O (io), 78 I/O (io)
part B pins: 2 I/O (io), 3 I/O, GTS2 (io), 4 I/O (io), 5 I/O, GTS3 (io), 6 I/O (io), 7 I/O, GST0 (io), 8 I/O (io), 9 I/O, GTS1 (io), 10 I/O (io), 12 I/O (io), 14 I/O (io), 15 I/O (io), 16 I/O (io), 17 I/O (io), 18 I/O (io), 19 I/O (io), 20 I/O (io), 21 I/O (io), 22 I/O (io), 23 I/O (io), 25 I/O (io), 183 I/O (io), 184 I/O (io), 185 I/O (io), 186 I/O (io), 187 I/O (io), 188 I/O (io), 189 I/O (io), 191 I/O (io), 192 I/O (io), 193 I/O (io), 194 I/O (io), 195 I/O (io), 196 I/O (io), 197 I/O (io), 198 I/O (io), 199 I/O (io), 200 I/O (io), 201 I/O (io), 202 I/O (io), 203 I/O (io), 205 I/O (io), 206 I/O, GRS (io), 208 I/O (io)
part C pins: 80 I/O (io), 82 I/O (io), 83 I/O (io), 84 I/O (io), 85 I/O (io), 86 I/O (io), 87 I/O (io), 88 I/O (io), 89 I/O (io), 90 I/O (io), 91 I/O (io), 95 I/O (io), 97 I/O (io), 99 I/O (io), 100 I/O (io), 101 I/O (io), 102 I/O (io), 103 I/O (io), 106 I/O (io), 107 I/O (io), 108 I/O (io), 109 I/O (io), 110 I/O (io), 111 I/O (io), 112 I/O (io), 113 I/O (io), 114 I/O (io), 115 I/O (io), 116 I/O (io), 117 I/O (io), 118 I/O (io), 119 I/O (io), 120 I/O (io), 121 I/O (io), 122 I/O (io), 123 I/O (io), 125 I/O (io), 126 I/O (io), 127 I/O (io), 128 I/O (io), 131 I/O (io)
part D pins: 134 I/O (io), 135 I/O (io), 136 I/O (io), 137 I/O (io), 138 I/O (io), 139 I/O (io), 140 I/O (io), 142 I/O (io), 143 I/O (io), 144 I/O (io), 145 I/O (io), 146 I/O (io), 147 I/O (io), 148 I/O (io), 149 I/O (io), 150 I/O (io), 151 I/O (io), 152 I/O (io), 153 I/O (io), 154 I/O (io), 155 I/O (io), 158 I/O (io), 159 I/O (io), 160 I/O (io), 161 I/O (io), 162 I/O (io), 163 I/O (io), 164 I/O (io), 165 I/O (io), 166 I/O (io), 167 I/O (io), 168 I/O (io), 169 I/O (io), 170 I/O (io), 171 I/O (io), 173 I/O (io), 174 I/O (io), 175 I/O (io), 178 I/O (io), 179 I/O (io), 180 I/O (io), 182 I/O (io)
part E pins: 94 TDI (in), 96 TMS (in), 98 TCK (in), 176 TDO
part F pins: 1 VCC (power), 11 VAUX (power), 26 VCCIO2 (power), 33 VCCIO1 (power), 53 VCC (power), 59 VCCIO1 (power), 79 VCCIO1 (power), 92 VCCIO3 (power), 105 VCCIO3 (power), 124 VCC (power), 132 VCCIO3 (power), 133 VCCIO4 (power), 157 VCCIO4 (power), 172 VCCIO4 (power), 181 VCCIO4 (power), 204 VCCIO2 (power)
part G pins: 13 GND (power), 24 GND (power), 42 GND (power), 52 GND (power), 68 GND (power), 81 GND (power), 93 GND (power), 104 GND (power), 129 GND (power), 130 GND (power), 141 GND (power), 156 GND (power), 177 GND (power), 190 GND (power), 207 GND (power)
part A text: BANK 1
part B text: BANK 2
part C text: BANK 3
part D text: BANK 4

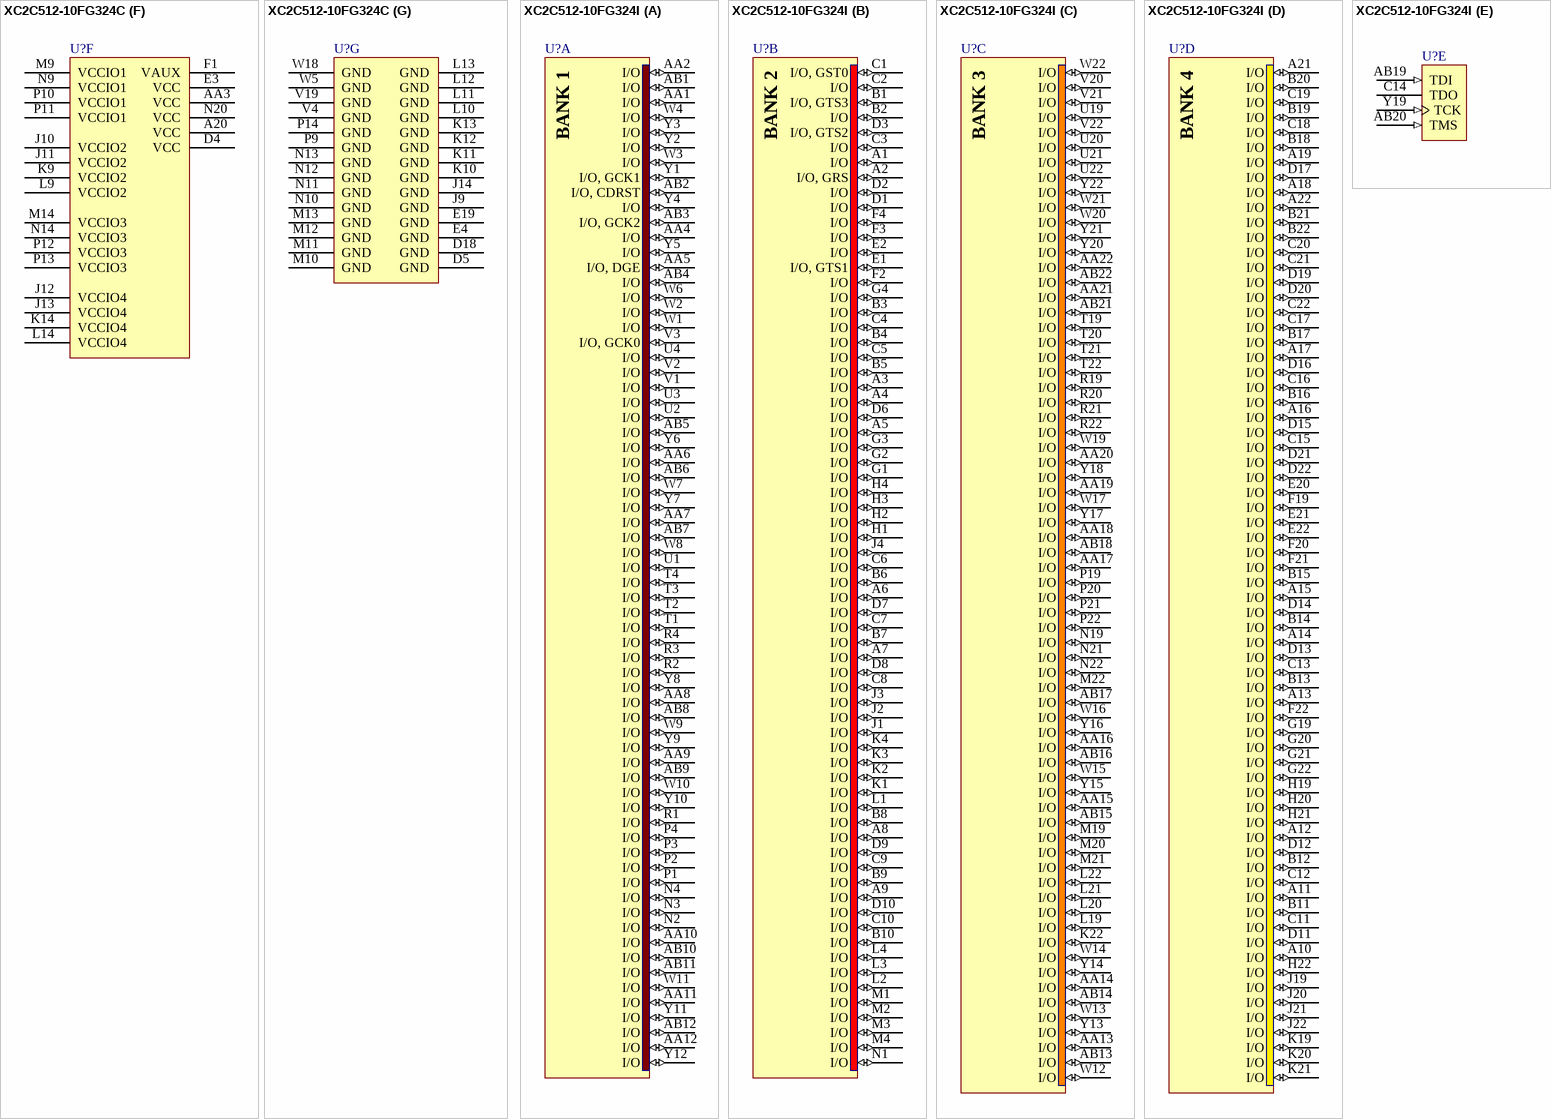
[diagram p91: symbols XC2C512-10FG324C to XC2C512-10FG324I]

## XC2C512-10FG324C
designator U?
CoolRunner-II 1.8V, 512 Macrocell CPLD, 270 User I/Os, 324-Ball FBGA, Commercial Grade; Published: 23-Sep-2002; LatestRevisionDate: 30-Oct-2009; LatestRevisionNote: Updated to datasheet version 3.1 Sep-2008.; DatasheetVersion: ver3.2, Mar-2007; PackageVersion: ver1.2.1, Mar-2005; PackageReference: FG324; Publisher: Altium Limited; PackageDescription: 324-Ball Fine Pitch Ball Grid Array 1.00 mm Pitch (FG324); Code_JEDEC: MS-034-AAJ-1; ComponentLink1Description: XC2C512 Datasheet; ComponentLink1URL: http://www.xilinx.com/support/documentation/data_sheets/ds096.pdf; ComponentLink2Description: FG324 Package Drawing; ComponentLink2URL: http://www.xilinx.com/support/documentation/package_specs/fg324.pdf; ComponentLink3Description: CoolRunner-II Documents; ComponentLink3URL: http://www.xilinx.com/support/documentation/coolrunner-ii.htm; ComponentLink4Description: Xilinx.com Home; ComponentLink4URL: http://www.xilinx.com
footprint FG324 (BGA, 324-Leads, Body 23x23mm, Pitch 1mm)
signal-integrity model XC2C512_FG324 (CoolRunner-II)
part A pins: AA1 I/O (io), AA2 I/O (io), AA4 I/O (io), AA5 I/O, DGE (io), AA6 I/O (io), AA7 I/O (io), AA8 I/O (io), AA9 I/O (io), AA10 I/O (io), AA11 I/O (io), AA12 I/O (io), AB1 I/O (io), AB2 I/O, CDRST (io), AB3 I/O, GCK2 (io), AB4 I/O (io), AB5 I/O (io), AB6 I/O (io), AB7 I/O (io), AB8 I/O (io), AB9 I/O (io), AB10 I/O (io), AB11 I/O (io), AB12 I/O (io), N2 I/O (io), N3 I/O (io), N4 I/O (io), P1 I/O (io), P2 I/O (io), P3 I/O (io), P4 I/O (io), R1 I/O (io), R2 I/O (io), R3 I/O (io), R4 I/O (io), T1 I/O (io), T2 I/O (io), T3 I/O (io), T4 I/O (io), U1 I/O (io), U2 I/O (io), U3 I/O (io), U4 I/O (io), V1 I/O (io), V2 I/O (io), V3 I/O, GCK0 (io), W1 I/O (io), W2 I/O (io), W3 I/O (io), W4 I/O (io), W6 I/O (io), W7 I/O (io), W8 I/O (io), W9 I/O (io), W10 I/O (io), W11 I/O (io), Y1 I/O, GCK1 (io), Y2 I/O (io), Y3 I/O (io), Y4 I/O (io), Y5 I/O (io), Y6 I/O (io), Y7 I/O (io), Y8 I/O (io), Y9 I/O (io), Y10 I/O (io), Y11 I/O (io), Y12 I/O (io)
part B pins: A1 I/O (io), A2 I/O, GRS (io), A3 I/O (io), A4 I/O (io), A5 I/O (io), A6 I/O (io), A7 I/O (io), A8 I/O (io), A9 I/O (io), B1 I/O, GTS3 (io), B2 I/O (io), B3 I/O (io), B4 I/O (io), B5 I/O (io), B6 I/O (io), B7 I/O (io), B8 I/O (io), B9 I/O (io), B10 I/O (io), C1 I/O, GST0 (io), C2 I/O (io), C3 I/O (io), C4 I/O (io), C5 I/O (io), C6 I/O (io), C7 I/O (io), C8 I/O (io), C9 I/O (io), C10 I/O (io), D1 I/O (io), D2 I/O (io), D3 I/O, GTS2 (io), D6 I/O (io), D7 I/O (io), D8 I/O (io), D9 I/O (io), D10 I/O (io), E1 I/O, GTS1 (io), E2 I/O (io), F2 I/O (io), F3 I/O (io), F4 I/O (io), G1 I/O (io), G2 I/O (io), G3 I/O (io), G4 I/O (io), H1 I/O (io), H2 I/O (io), H3 I/O (io), H4 I/O (io), J1 I/O (io), J2 I/O (io), J3 I/O (io), J4 I/O (io), K1 I/O (io), K2 I/O (io), K3 I/O (io), K4 I/O (io), L1 I/O (io), L2 I/O (io), L3 I/O (io), L4 I/O (io), M1 I/O (io), M2 I/O (io), M3 I/O (io), M4 I/O (io), N1 I/O (io)
part C pins: AA13 I/O (io), AA14 I/O (io), AA15 I/O (io), AA16 I/O (io), AA17 I/O (io), AA18 I/O (io), AA19 I/O (io), AA20 I/O (io), AA21 I/O (io), AA22 I/O (io), AB13 I/O (io), AB14 I/O (io), AB15 I/O (io), AB16 I/O (io), AB17 I/O (io), AB18 I/O (io), AB21 I/O (io), AB22 I/O (io), K22 I/O (io), L19 I/O (io), L20 I/O (io), L21 I/O (io), L22 I/O (io), M19 I/O (io), M20 I/O (io), M21 I/O (io), M22 I/O (io), N19 I/O (io), N21 I/O (io), N22 I/O (io), P19 I/O (io), P20 I/O (io), P21 I/O (io), P22 I/O (io), R19 I/O (io), R20 I/O (io), R21 I/O (io), R22 I/O (io), T19 I/O (io), T20 I/O (io), T21 I/O (io), T22 I/O (io), U19 I/O (io), U20 I/O (io), U21 I/O (io), U22 I/O (io), V20 I/O (io), V21 I/O (io), V22 I/O (io), W12 I/O (io), W13 I/O (io), W14 I/O (io), W15 I/O (io), W16 I/O (io), W17 I/O (io), W19 I/O (io), W20 I/O (io), W21 I/O (io), W22 I/O (io), Y13 I/O (io), Y14 I/O (io), Y15 I/O (io), Y16 I/O (io), Y17 I/O (io), Y18 I/O (io), Y20 I/O (io), Y21 I/O (io), Y22 I/O (io)
part D pins: A10 I/O (io), A11 I/O (io), A12 I/O (io), A13 I/O (io), A14 I/O (io), A15 I/O (io), A16 I/O (io), A17 I/O (io), A18 I/O (io), A19 I/O (io), A21 I/O (io), A22 I/O (io), B11 I/O (io), B12 I/O (io), B13 I/O (io), B14 I/O (io), B15 I/O (io), B16 I/O (io), B17 I/O (io), B18 I/O (io), B19 I/O (io), B20 I/O (io), B21 I/O (io), B22 I/O (io), C11 I/O (io), C12 I/O (io), C13 I/O (io), C15 I/O (io), C16 I/O (io), C17 I/O (io), C18 I/O (io), C19 I/O (io), C20 I/O (io), C21 I/O (io), C22 I/O (io), D11 I/O (io), D12 I/O (io), D13 I/O (io), D14 I/O (io), D15 I/O (io), D16 I/O (io), D17 I/O (io), D19 I/O (io), D20 I/O (io), D21 I/O (io), D22 I/O (io), E20 I/O (io), E21 I/O (io), E22 I/O (io), F19 I/O (io), F20 I/O (io), F21 I/O (io), F22 I/O (io), G19 I/O (io), G20 I/O (io), G21 I/O (io), G22 I/O (io), H19 I/O (io), H20 I/O (io), H21 I/O (io), H22 I/O (io), J19 I/O (io), J20 I/O (io), J21 I/O (io), J22 I/O (io), K19 I/O (io), K20 I/O (io), K21 I/O (io)
part E pins: AB19 TDI (in), AB20 TMS (in), C14 TDO, Y19 TCK (in)
part F pins: A20 VCC (power), AA3 VCC (power), D4 VCC (power), E3 VCC (power), F1 VAUX (power), J10 VCCIO2 (power), J11 VCCIO2 (power), J12 VCCIO4 (power), J13 VCCIO4 (power), K9 VCCIO2 (power), K14 VCCIO4 (power), L9 VCCIO2 (power), L14 VCCIO4 (power), M9 VCCIO1 (power), M14 VCCIO3 (power), N9 VCCIO1 (power), N14 VCCIO3 (power), N20 VCC (power), P10 VCCIO1 (power), P11 VCCIO1 (power), P12 VCCIO3 (power), P13 VCCIO3 (power)
part G pins: D5 GND (power), D18 GND (power), E4 GND (power), E19 GND (power), J9 GND (power), J14 GND (power), K10 GND (power), K11 GND (power), K12 GND (power), K13 GND (power), L10 GND (power), L11 GND (power), L12 GND (power), L13 GND (power), M10 GND (power), M11 GND (power), M12 GND (power), M13 GND (power), N10 GND (power), N11 GND (power), N12 GND (power), N13 GND (power), P9 GND (power), P14 GND (power), V4 GND (power), V19 GND (power), W5 GND (power), W18 GND (power)
part A text: BANK 1
part B text: BANK 2
part C text: BANK 3
part D text: BANK 4

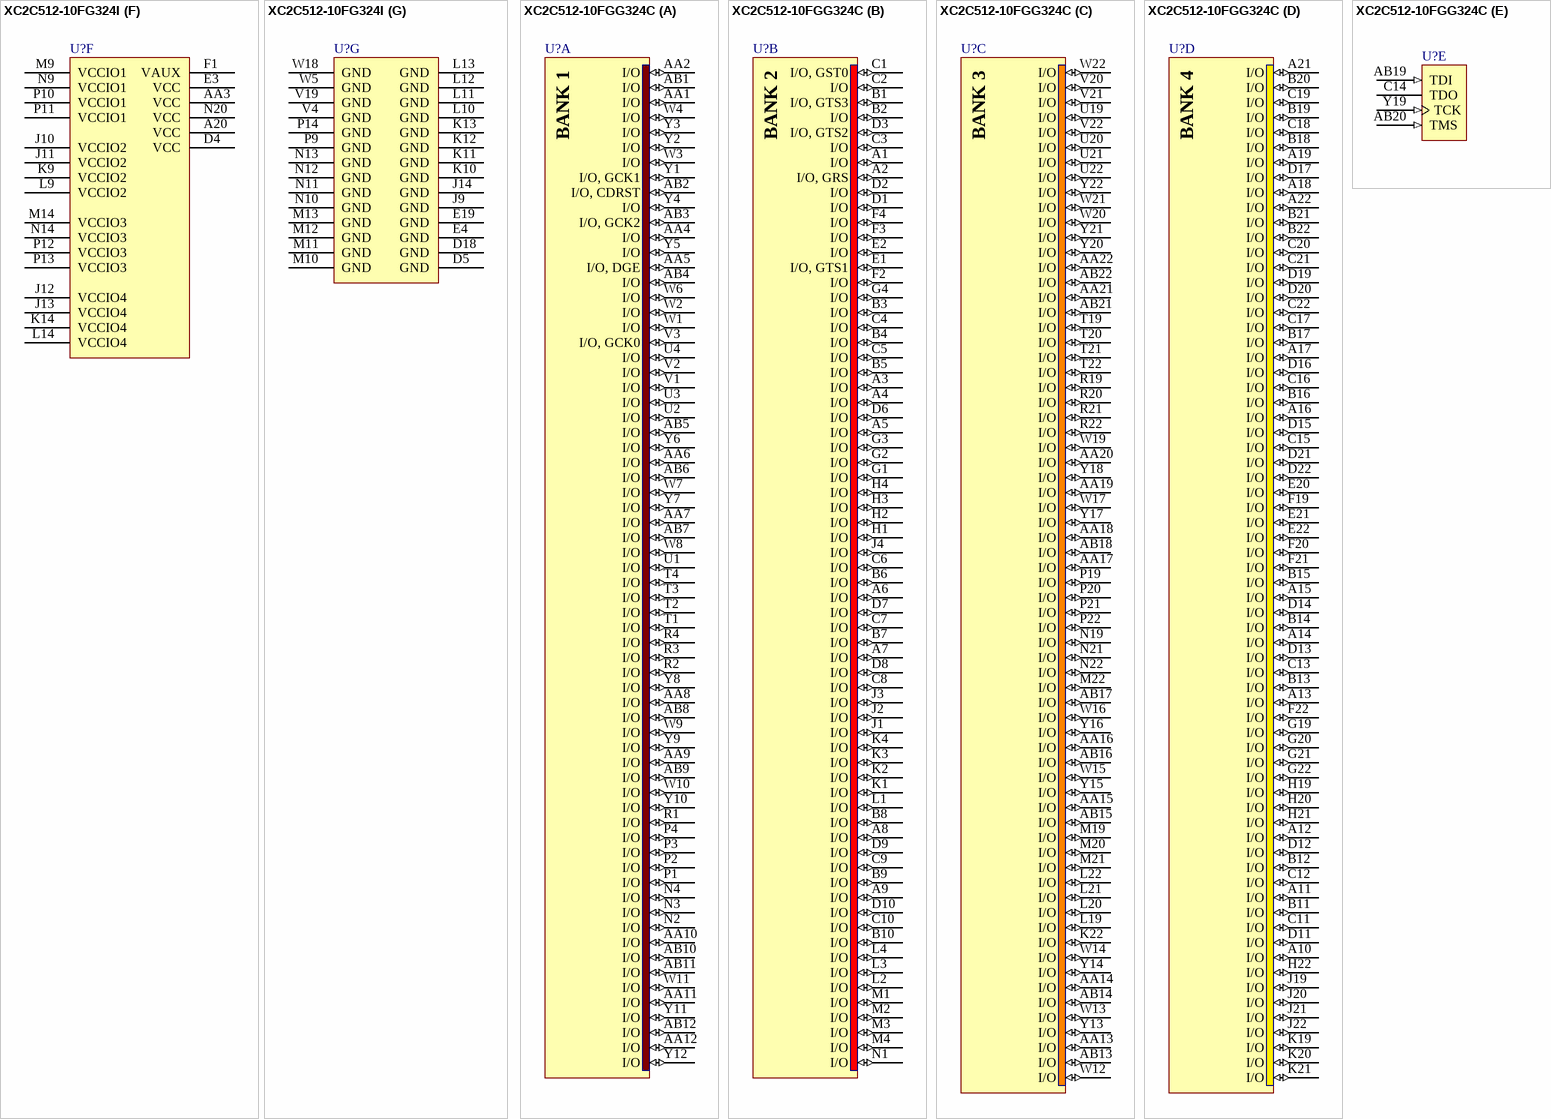
[diagram p92: symbols XC2C512-10FG324I to XC2C512-10FGG324C]

## XC2C512-10FG324I
designator U?
CoolRunner-II 1.8V, 512 Macrocell CPLD, 270 User I/Os, 324-Ball FBGA, Industrial Grade; Published: 23-Sep-2002; LatestRevisionDate: 30-Oct-2009; LatestRevisionNote: Updated to datasheet version 3.1 Sep-2008.; DatasheetVersion: ver3.2, Mar-2007; PackageVersion: ver1.2.1, Mar-2005; PackageReference: FG324; Publisher: Altium Limited; PackageDescription: 324-Ball Fine Pitch Ball Grid Array 1.00 mm Pitch (FG324); Code_JEDEC: MS-034-AAJ-1; ComponentLink1Description: XC2C512 Datasheet; ComponentLink1URL: http://www.xilinx.com/support/documentation/data_sheets/ds096.pdf; ComponentLink2Description: FG324 Package Drawing; ComponentLink2URL: http://www.xilinx.com/support/documentation/package_specs/fg324.pdf; ComponentLink3Description: CoolRunner-II Documents; ComponentLink3URL: http://www.xilinx.com/support/documentation/coolrunner-ii.htm; ComponentLink4Description: Xilinx.com Home; ComponentLink4URL: http://www.xilinx.com
footprint FG324 (BGA, 324-Leads, Body 23x23mm, Pitch 1mm)
signal-integrity model XC2C512_FG324 (CoolRunner-II)
part A pins: AA1 I/O (io), AA2 I/O (io), AA4 I/O (io), AA5 I/O, DGE (io), AA6 I/O (io), AA7 I/O (io), AA8 I/O (io), AA9 I/O (io), AA10 I/O (io), AA11 I/O (io), AA12 I/O (io), AB1 I/O (io), AB2 I/O, CDRST (io), AB3 I/O, GCK2 (io), AB4 I/O (io), AB5 I/O (io), AB6 I/O (io), AB7 I/O (io), AB8 I/O (io), AB9 I/O (io), AB10 I/O (io), AB11 I/O (io), AB12 I/O (io), N2 I/O (io), N3 I/O (io), N4 I/O (io), P1 I/O (io), P2 I/O (io), P3 I/O (io), P4 I/O (io), R1 I/O (io), R2 I/O (io), R3 I/O (io), R4 I/O (io), T1 I/O (io), T2 I/O (io), T3 I/O (io), T4 I/O (io), U1 I/O (io), U2 I/O (io), U3 I/O (io), U4 I/O (io), V1 I/O (io), V2 I/O (io), V3 I/O, GCK0 (io), W1 I/O (io), W2 I/O (io), W3 I/O (io), W4 I/O (io), W6 I/O (io), W7 I/O (io), W8 I/O (io), W9 I/O (io), W10 I/O (io), W11 I/O (io), Y1 I/O, GCK1 (io), Y2 I/O (io), Y3 I/O (io), Y4 I/O (io), Y5 I/O (io), Y6 I/O (io), Y7 I/O (io), Y8 I/O (io), Y9 I/O (io), Y10 I/O (io), Y11 I/O (io), Y12 I/O (io)
part B pins: A1 I/O (io), A2 I/O, GRS (io), A3 I/O (io), A4 I/O (io), A5 I/O (io), A6 I/O (io), A7 I/O (io), A8 I/O (io), A9 I/O (io), B1 I/O, GTS3 (io), B2 I/O (io), B3 I/O (io), B4 I/O (io), B5 I/O (io), B6 I/O (io), B7 I/O (io), B8 I/O (io), B9 I/O (io), B10 I/O (io), C1 I/O, GST0 (io), C2 I/O (io), C3 I/O (io), C4 I/O (io), C5 I/O (io), C6 I/O (io), C7 I/O (io), C8 I/O (io), C9 I/O (io), C10 I/O (io), D1 I/O (io), D2 I/O (io), D3 I/O, GTS2 (io), D6 I/O (io), D7 I/O (io), D8 I/O (io), D9 I/O (io), D10 I/O (io), E1 I/O, GTS1 (io), E2 I/O (io), F2 I/O (io), F3 I/O (io), F4 I/O (io), G1 I/O (io), G2 I/O (io), G3 I/O (io), G4 I/O (io), H1 I/O (io), H2 I/O (io), H3 I/O (io), H4 I/O (io), J1 I/O (io), J2 I/O (io), J3 I/O (io), J4 I/O (io), K1 I/O (io), K2 I/O (io), K3 I/O (io), K4 I/O (io), L1 I/O (io), L2 I/O (io), L3 I/O (io), L4 I/O (io), M1 I/O (io), M2 I/O (io), M3 I/O (io), M4 I/O (io), N1 I/O (io)
part C pins: AA13 I/O (io), AA14 I/O (io), AA15 I/O (io), AA16 I/O (io), AA17 I/O (io), AA18 I/O (io), AA19 I/O (io), AA20 I/O (io), AA21 I/O (io), AA22 I/O (io), AB13 I/O (io), AB14 I/O (io), AB15 I/O (io), AB16 I/O (io), AB17 I/O (io), AB18 I/O (io), AB21 I/O (io), AB22 I/O (io), K22 I/O (io), L19 I/O (io), L20 I/O (io), L21 I/O (io), L22 I/O (io), M19 I/O (io), M20 I/O (io), M21 I/O (io), M22 I/O (io), N19 I/O (io), N21 I/O (io), N22 I/O (io), P19 I/O (io), P20 I/O (io), P21 I/O (io), P22 I/O (io), R19 I/O (io), R20 I/O (io), R21 I/O (io), R22 I/O (io), T19 I/O (io), T20 I/O (io), T21 I/O (io), T22 I/O (io), U19 I/O (io), U20 I/O (io), U21 I/O (io), U22 I/O (io), V20 I/O (io), V21 I/O (io), V22 I/O (io), W12 I/O (io), W13 I/O (io), W14 I/O (io), W15 I/O (io), W16 I/O (io), W17 I/O (io), W19 I/O (io), W20 I/O (io), W21 I/O (io), W22 I/O (io), Y13 I/O (io), Y14 I/O (io), Y15 I/O (io), Y16 I/O (io), Y17 I/O (io), Y18 I/O (io), Y20 I/O (io), Y21 I/O (io), Y22 I/O (io)
part D pins: A10 I/O (io), A11 I/O (io), A12 I/O (io), A13 I/O (io), A14 I/O (io), A15 I/O (io), A16 I/O (io), A17 I/O (io), A18 I/O (io), A19 I/O (io), A21 I/O (io), A22 I/O (io), B11 I/O (io), B12 I/O (io), B13 I/O (io), B14 I/O (io), B15 I/O (io), B16 I/O (io), B17 I/O (io), B18 I/O (io), B19 I/O (io), B20 I/O (io), B21 I/O (io), B22 I/O (io), C11 I/O (io), C12 I/O (io), C13 I/O (io), C15 I/O (io), C16 I/O (io), C17 I/O (io), C18 I/O (io), C19 I/O (io), C20 I/O (io), C21 I/O (io), C22 I/O (io), D11 I/O (io), D12 I/O (io), D13 I/O (io), D14 I/O (io), D15 I/O (io), D16 I/O (io), D17 I/O (io), D19 I/O (io), D20 I/O (io), D21 I/O (io), D22 I/O (io), E20 I/O (io), E21 I/O (io), E22 I/O (io), F19 I/O (io), F20 I/O (io), F21 I/O (io), F22 I/O (io), G19 I/O (io), G20 I/O (io), G21 I/O (io), G22 I/O (io), H19 I/O (io), H20 I/O (io), H21 I/O (io), H22 I/O (io), J19 I/O (io), J20 I/O (io), J21 I/O (io), J22 I/O (io), K19 I/O (io), K20 I/O (io), K21 I/O (io)
part E pins: AB19 TDI (in), AB20 TMS (in), C14 TDO, Y19 TCK (in)
part F pins: A20 VCC (power), AA3 VCC (power), D4 VCC (power), E3 VCC (power), F1 VAUX (power), J10 VCCIO2 (power), J11 VCCIO2 (power), J12 VCCIO4 (power), J13 VCCIO4 (power), K9 VCCIO2 (power), K14 VCCIO4 (power), L9 VCCIO2 (power), L14 VCCIO4 (power), M9 VCCIO1 (power), M14 VCCIO3 (power), N9 VCCIO1 (power), N14 VCCIO3 (power), N20 VCC (power), P10 VCCIO1 (power), P11 VCCIO1 (power), P12 VCCIO3 (power), P13 VCCIO3 (power)
part G pins: D5 GND (power), D18 GND (power), E4 GND (power), E19 GND (power), J9 GND (power), J14 GND (power), K10 GND (power), K11 GND (power), K12 GND (power), K13 GND (power), L10 GND (power), L11 GND (power), L12 GND (power), L13 GND (power), M10 GND (power), M11 GND (power), M12 GND (power), M13 GND (power), N10 GND (power), N11 GND (power), N12 GND (power), N13 GND (power), P9 GND (power), P14 GND (power), V4 GND (power), V19 GND (power), W5 GND (power), W18 GND (power)
part A text: BANK 1
part B text: BANK 2
part C text: BANK 3
part D text: BANK 4

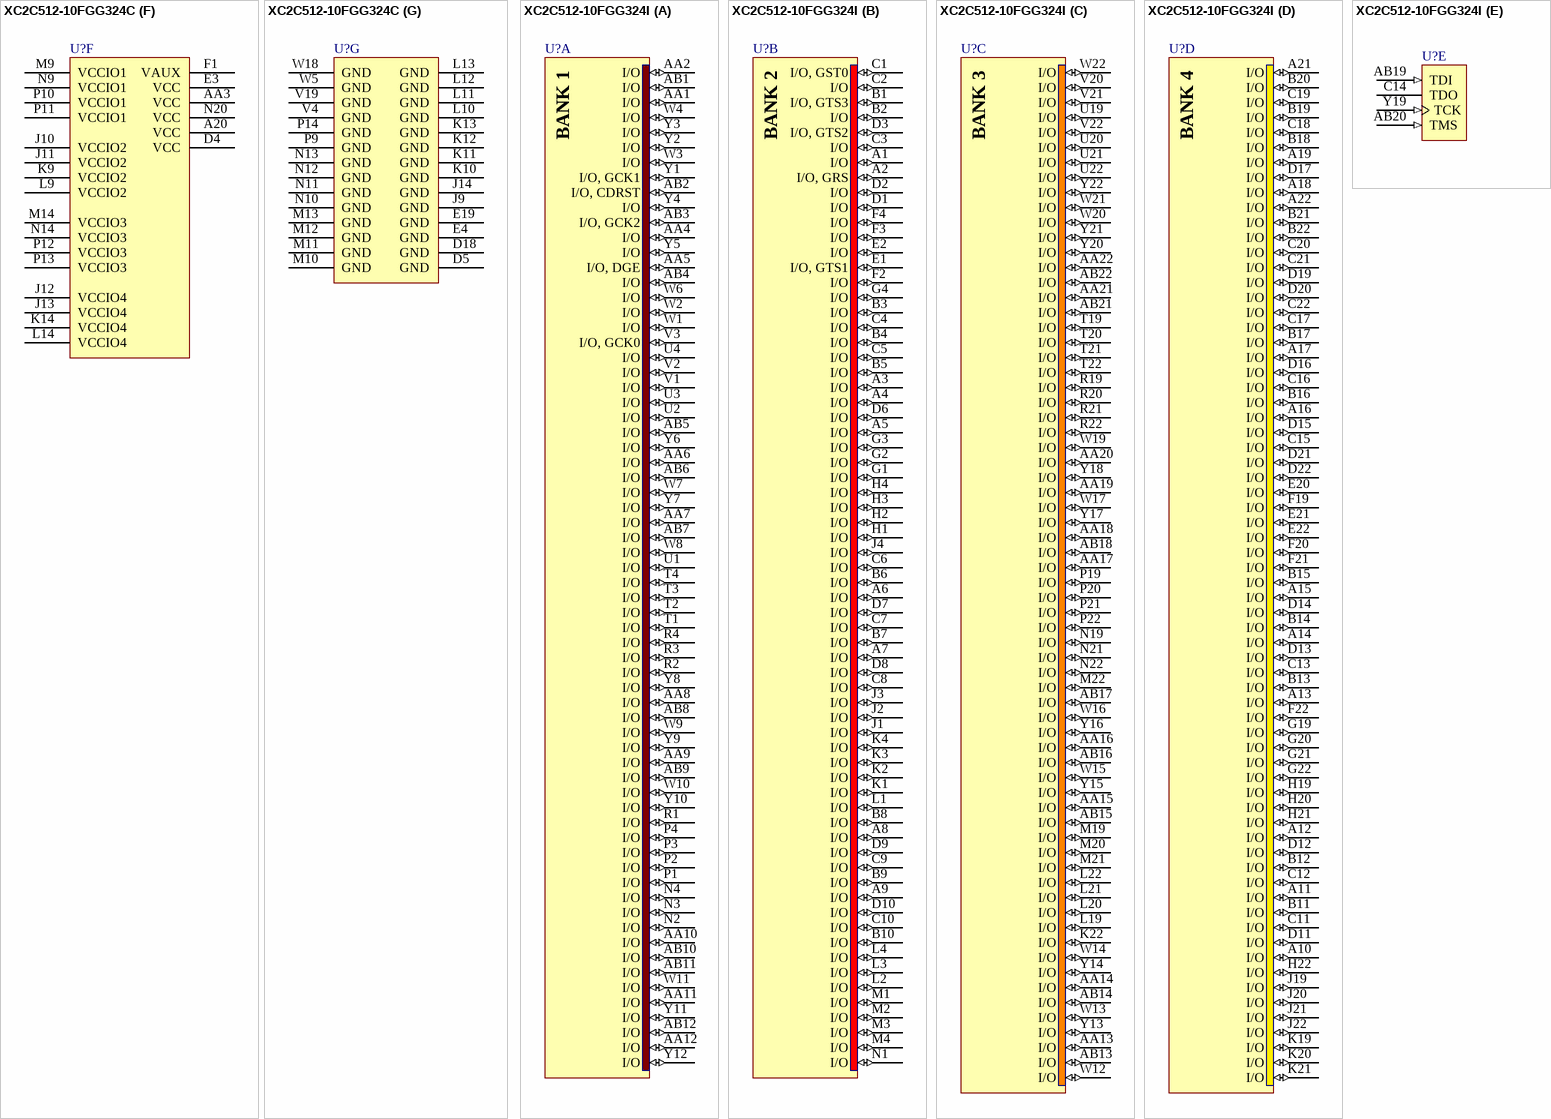
[diagram p93: symbols XC2C512-10FGG324C to XC2C512-10FGG324I]

## XC2C512-10FGG324C
designator U?
CoolRunner-II 1.8V, 512 Macrocell CPLD, 270 User I/Os, 324-Ball FBGA, Commercial Grade, Pb-Free; Published: 4-Mar-2005; LatestRevisionDate: 30-Oct-2009; LatestRevisionNote: Updated to datasheet version 3.1 Sep-2008.; DatasheetVersion: ver3.2, Mar-2007; PackageVersion: ver1.2.1, Mar-2005; PackageReference: FGG324; Publisher: Altium Limited; PackageDescription: 324-Ball Fine Pitch Ball Grid Array 1.00 mm Pitch (FGG324) - Pb-Free; Supplier 1: Digi-Key; Supplier Part Number 1: 122-1415-ND; Code_JEDEC: MS-034-AAJ-1; ComponentLink1Description: XC2C512 Datasheet; ComponentLink1URL: http://www.xilinx.com/support/documentation/data_sheets/ds096.pdf; ComponentLink2Description: FGG324 Package Drawing; ComponentLink2URL: http://www.xilinx.com/support/documentation/package_specs/fg324.pdf; ComponentLink3Description: CoolRunner-II Documents; ComponentLink3URL: http://www.xilinx.com/support/documentation/coolrunner-ii.htm; ComponentLink4Description: Xilinx.com Home; ComponentLink4URL: http://www.xilinx.com
footprint FGG324 (BGA, 324-Leads, Body 23x23mm, Pitch 1mm)
signal-integrity model XC2C512_FG324 (CoolRunner-II)
part A pins: AA1 I/O (io), AA2 I/O (io), AA4 I/O (io), AA5 I/O, DGE (io), AA6 I/O (io), AA7 I/O (io), AA8 I/O (io), AA9 I/O (io), AA10 I/O (io), AA11 I/O (io), AA12 I/O (io), AB1 I/O (io), AB2 I/O, CDRST (io), AB3 I/O, GCK2 (io), AB4 I/O (io), AB5 I/O (io), AB6 I/O (io), AB7 I/O (io), AB8 I/O (io), AB9 I/O (io), AB10 I/O (io), AB11 I/O (io), AB12 I/O (io), N2 I/O (io), N3 I/O (io), N4 I/O (io), P1 I/O (io), P2 I/O (io), P3 I/O (io), P4 I/O (io), R1 I/O (io), R2 I/O (io), R3 I/O (io), R4 I/O (io), T1 I/O (io), T2 I/O (io), T3 I/O (io), T4 I/O (io), U1 I/O (io), U2 I/O (io), U3 I/O (io), U4 I/O (io), V1 I/O (io), V2 I/O (io), V3 I/O, GCK0 (io), W1 I/O (io), W2 I/O (io), W3 I/O (io), W4 I/O (io), W6 I/O (io), W7 I/O (io), W8 I/O (io), W9 I/O (io), W10 I/O (io), W11 I/O (io), Y1 I/O, GCK1 (io), Y2 I/O (io), Y3 I/O (io), Y4 I/O (io), Y5 I/O (io), Y6 I/O (io), Y7 I/O (io), Y8 I/O (io), Y9 I/O (io), Y10 I/O (io), Y11 I/O (io), Y12 I/O (io)
part B pins: A1 I/O (io), A2 I/O, GRS (io), A3 I/O (io), A4 I/O (io), A5 I/O (io), A6 I/O (io), A7 I/O (io), A8 I/O (io), A9 I/O (io), B1 I/O, GTS3 (io), B2 I/O (io), B3 I/O (io), B4 I/O (io), B5 I/O (io), B6 I/O (io), B7 I/O (io), B8 I/O (io), B9 I/O (io), B10 I/O (io), C1 I/O, GST0 (io), C2 I/O (io), C3 I/O (io), C4 I/O (io), C5 I/O (io), C6 I/O (io), C7 I/O (io), C8 I/O (io), C9 I/O (io), C10 I/O (io), D1 I/O (io), D2 I/O (io), D3 I/O, GTS2 (io), D6 I/O (io), D7 I/O (io), D8 I/O (io), D9 I/O (io), D10 I/O (io), E1 I/O, GTS1 (io), E2 I/O (io), F2 I/O (io), F3 I/O (io), F4 I/O (io), G1 I/O (io), G2 I/O (io), G3 I/O (io), G4 I/O (io), H1 I/O (io), H2 I/O (io), H3 I/O (io), H4 I/O (io), J1 I/O (io), J2 I/O (io), J3 I/O (io), J4 I/O (io), K1 I/O (io), K2 I/O (io), K3 I/O (io), K4 I/O (io), L1 I/O (io), L2 I/O (io), L3 I/O (io), L4 I/O (io), M1 I/O (io), M2 I/O (io), M3 I/O (io), M4 I/O (io), N1 I/O (io)
part C pins: AA13 I/O (io), AA14 I/O (io), AA15 I/O (io), AA16 I/O (io), AA17 I/O (io), AA18 I/O (io), AA19 I/O (io), AA20 I/O (io), AA21 I/O (io), AA22 I/O (io), AB13 I/O (io), AB14 I/O (io), AB15 I/O (io), AB16 I/O (io), AB17 I/O (io), AB18 I/O (io), AB21 I/O (io), AB22 I/O (io), K22 I/O (io), L19 I/O (io), L20 I/O (io), L21 I/O (io), L22 I/O (io), M19 I/O (io), M20 I/O (io), M21 I/O (io), M22 I/O (io), N19 I/O (io), N21 I/O (io), N22 I/O (io), P19 I/O (io), P20 I/O (io), P21 I/O (io), P22 I/O (io), R19 I/O (io), R20 I/O (io), R21 I/O (io), R22 I/O (io), T19 I/O (io), T20 I/O (io), T21 I/O (io), T22 I/O (io), U19 I/O (io), U20 I/O (io), U21 I/O (io), U22 I/O (io), V20 I/O (io), V21 I/O (io), V22 I/O (io), W12 I/O (io), W13 I/O (io), W14 I/O (io), W15 I/O (io), W16 I/O (io), W17 I/O (io), W19 I/O (io), W20 I/O (io), W21 I/O (io), W22 I/O (io), Y13 I/O (io), Y14 I/O (io), Y15 I/O (io), Y16 I/O (io), Y17 I/O (io), Y18 I/O (io), Y20 I/O (io), Y21 I/O (io), Y22 I/O (io)
part D pins: A10 I/O (io), A11 I/O (io), A12 I/O (io), A13 I/O (io), A14 I/O (io), A15 I/O (io), A16 I/O (io), A17 I/O (io), A18 I/O (io), A19 I/O (io), A21 I/O (io), A22 I/O (io), B11 I/O (io), B12 I/O (io), B13 I/O (io), B14 I/O (io), B15 I/O (io), B16 I/O (io), B17 I/O (io), B18 I/O (io), B19 I/O (io), B20 I/O (io), B21 I/O (io), B22 I/O (io), C11 I/O (io), C12 I/O (io), C13 I/O (io), C15 I/O (io), C16 I/O (io), C17 I/O (io), C18 I/O (io), C19 I/O (io), C20 I/O (io), C21 I/O (io), C22 I/O (io), D11 I/O (io), D12 I/O (io), D13 I/O (io), D14 I/O (io), D15 I/O (io), D16 I/O (io), D17 I/O (io), D19 I/O (io), D20 I/O (io), D21 I/O (io), D22 I/O (io), E20 I/O (io), E21 I/O (io), E22 I/O (io), F19 I/O (io), F20 I/O (io), F21 I/O (io), F22 I/O (io), G19 I/O (io), G20 I/O (io), G21 I/O (io), G22 I/O (io), H19 I/O (io), H20 I/O (io), H21 I/O (io), H22 I/O (io), J19 I/O (io), J20 I/O (io), J21 I/O (io), J22 I/O (io), K19 I/O (io), K20 I/O (io), K21 I/O (io)
part E pins: AB19 TDI (in), AB20 TMS (in), C14 TDO, Y19 TCK (in)
part F pins: A20 VCC (power), AA3 VCC (power), D4 VCC (power), E3 VCC (power), F1 VAUX (power), J10 VCCIO2 (power), J11 VCCIO2 (power), J12 VCCIO4 (power), J13 VCCIO4 (power), K9 VCCIO2 (power), K14 VCCIO4 (power), L9 VCCIO2 (power), L14 VCCIO4 (power), M9 VCCIO1 (power), M14 VCCIO3 (power), N9 VCCIO1 (power), N14 VCCIO3 (power), N20 VCC (power), P10 VCCIO1 (power), P11 VCCIO1 (power), P12 VCCIO3 (power), P13 VCCIO3 (power)
part G pins: D5 GND (power), D18 GND (power), E4 GND (power), E19 GND (power), J9 GND (power), J14 GND (power), K10 GND (power), K11 GND (power), K12 GND (power), K13 GND (power), L10 GND (power), L11 GND (power), L12 GND (power), L13 GND (power), M10 GND (power), M11 GND (power), M12 GND (power), M13 GND (power), N10 GND (power), N11 GND (power), N12 GND (power), N13 GND (power), P9 GND (power), P14 GND (power), V4 GND (power), V19 GND (power), W5 GND (power), W18 GND (power)
part A text: BANK 1
part B text: BANK 2
part C text: BANK 3
part D text: BANK 4

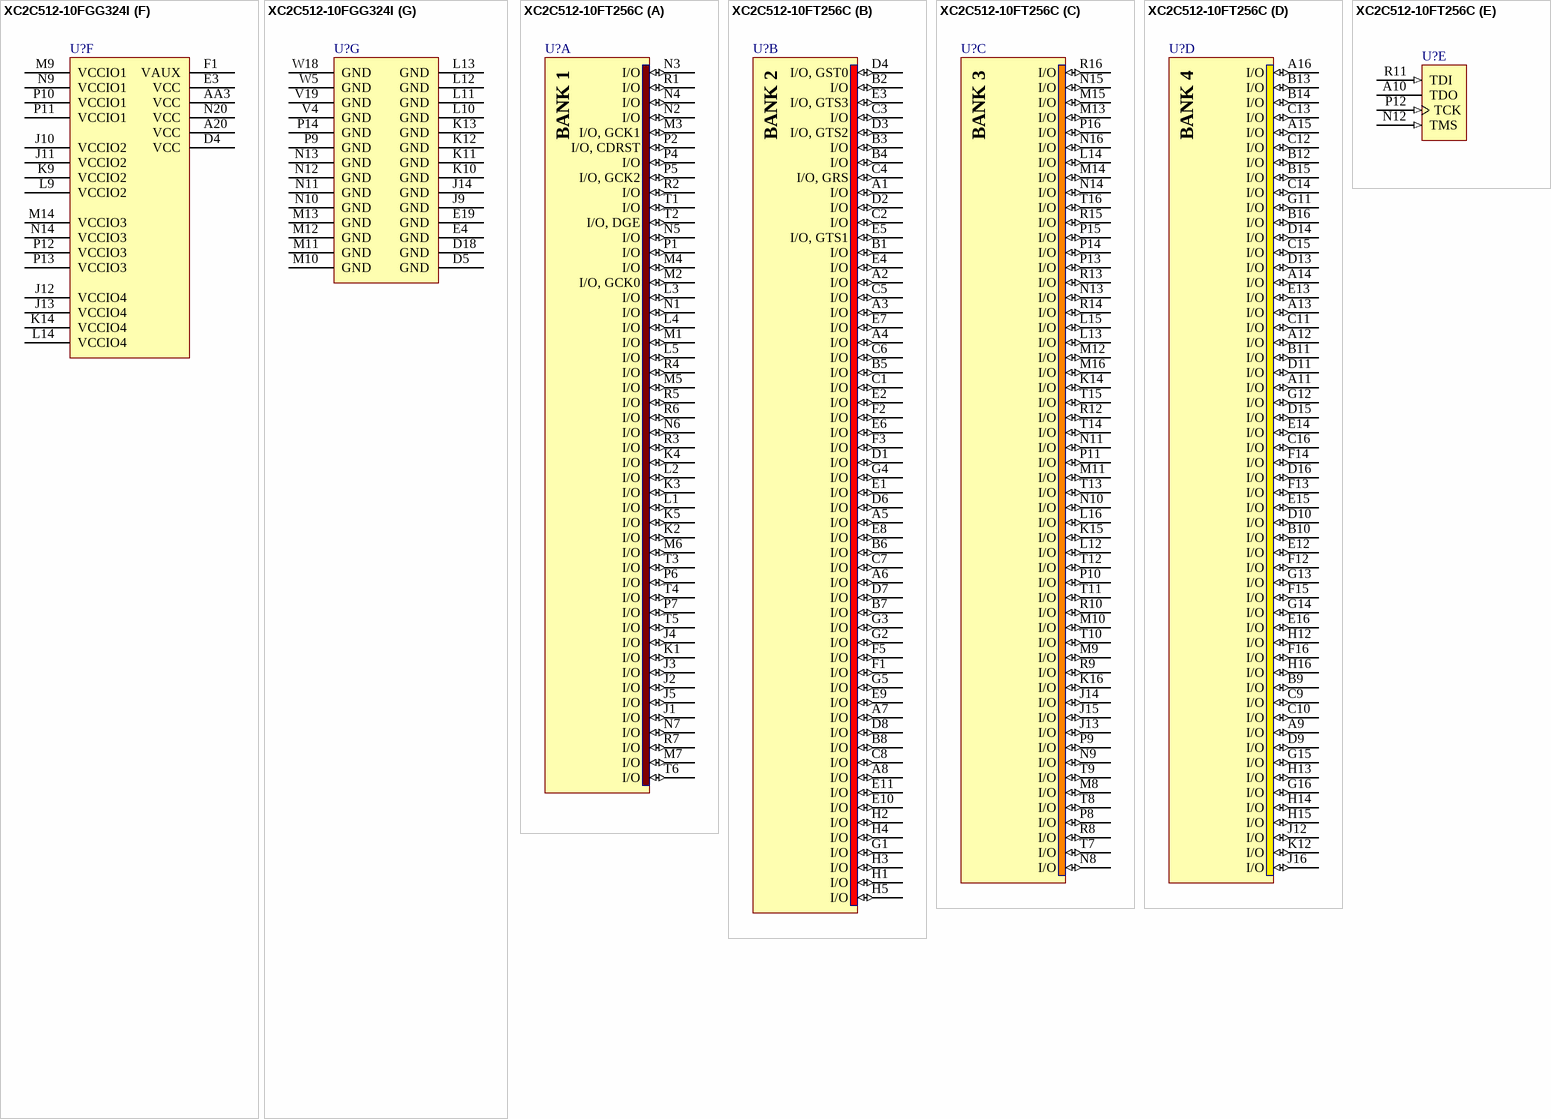
[diagram p94: symbols XC2C512-10FGG324I to XC2C512-10FT256C]